# Altium schematic symbol library EVMOMAPL137_Orcad_revg_Library.SchLib: 165 symbols
Pins are listed as number, name and electrical type; pins without a type are passive.

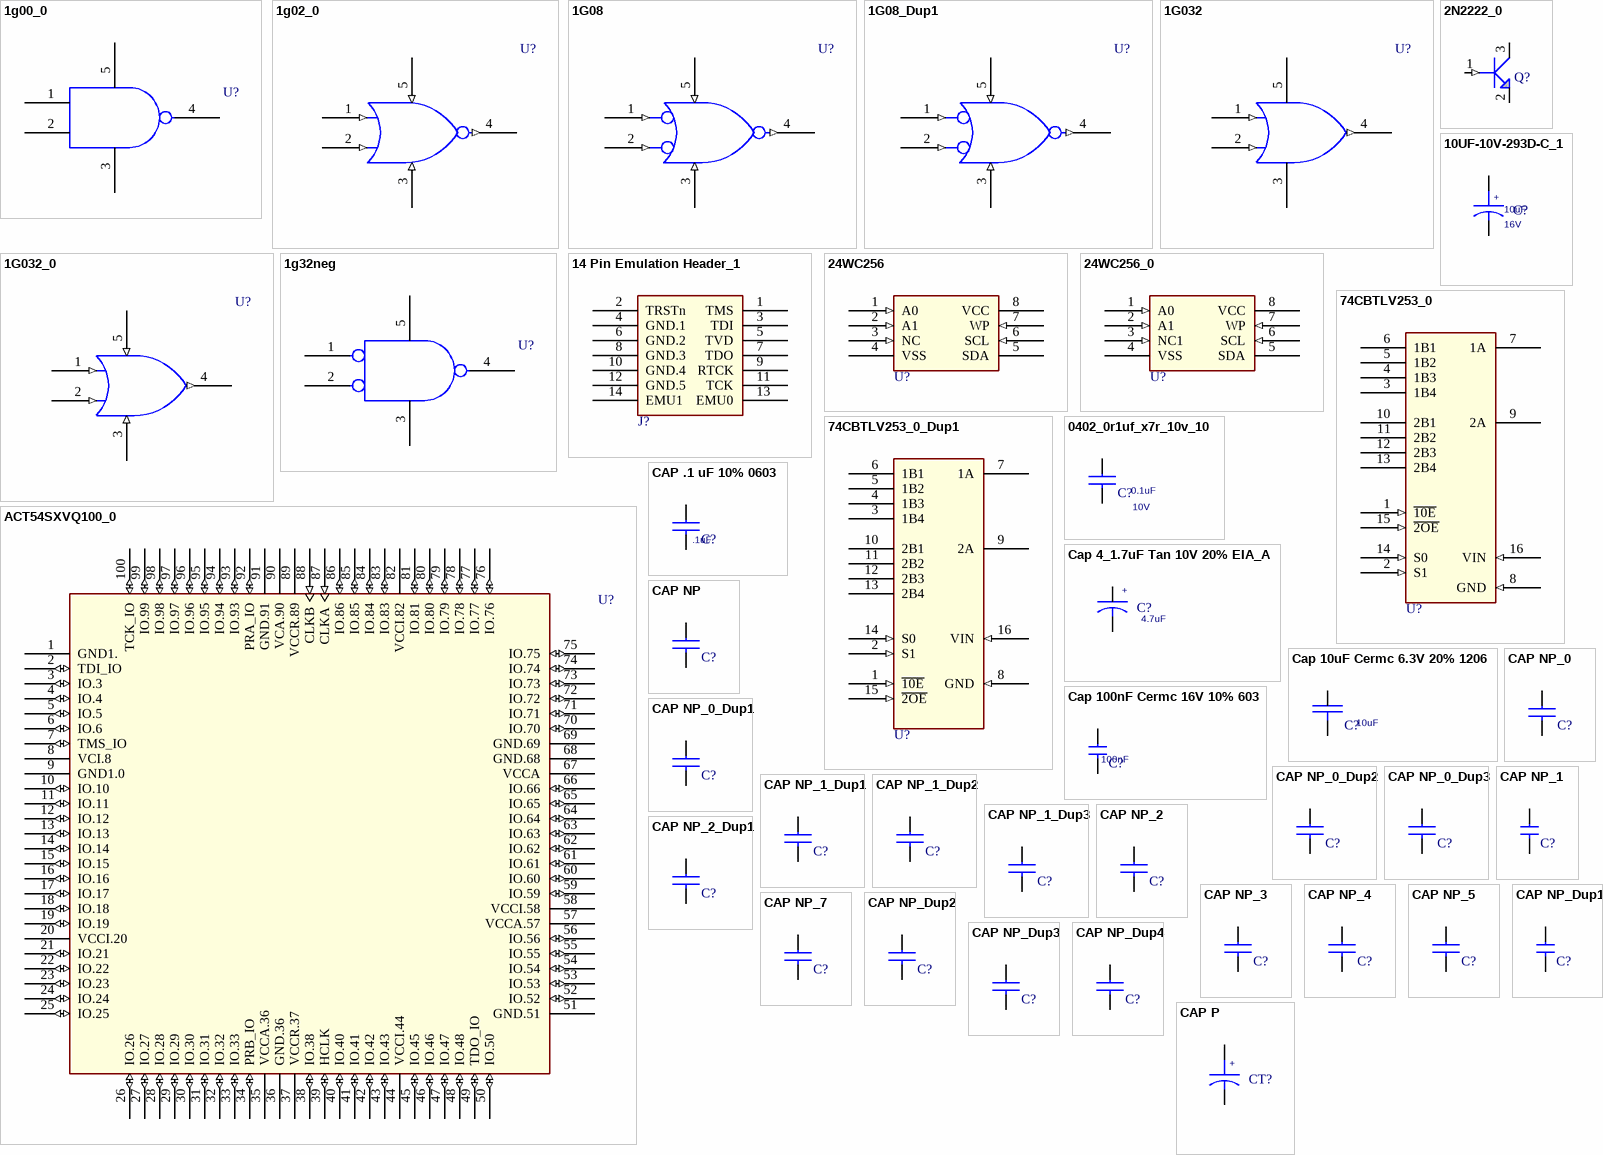
[diagram p0: symbols 1g00_0 to CAP P]

## 1g00_0
designator U?
pins: 1 A, 2 B, 3 GND, 4 Y, 5 VCC

## 1g02_0
designator U?
pins: 1 B (in), 2 A (in), 3 GND (in), 4 Y (out), 5 VCC (in)

## 1G08
designator U?
footprint SO5
pins: 1 B (in), 2 A (in), 3 GND (in), 4 Y (out), 5 VCC (in)

## 1G08_Dup1
designator U?
footprint SO5
pins: 1 B (in), 2 A (in), 3 GND (in), 4 Y (out), 5 VCC (in)

## 1G032
designator U?
footprint SO5
pins: 1 B (in), 2 A (in), 3 GND (power), 4 Y (out), 5 VCC (power)

## 1G032_0
designator U?
footprint SO5
pins: 1 B (in), 2 A (in), 3 GND (in), 4 Y (out), 5 VCC (in)

## 1g32neg
designator U?
pins: 1 A, 2 B, 3 GND, 4 Y, 5 VCC

## 2N2222_0
designator Q?
pins: 1 BASE (in), 2 EMITTER, 3 COLLECTOR

## 10UF-10V-293D-C_1
designator C?, comment 10uF  RAT: 16V
DEVICE: CAP3528; CLASS: DISCRETE; DIS-V: RS; REF DIS-V: 100-2221; MAN: VISHAY-SPRAGUE; DES: Polarized capacitor; PN: 293D106X9016C; PUR: SUB; TOL: 10%
footprint SM-PCAP-3216
pins: 1 P, 2 M
text: +

## 14 Pin Emulation Header_1
designator J?
pins: 1 TMS, 2 TRSTn, 3 TDI, 4 GND.1 (power), 5 TVD, 6 GND.2 (power), 7 TDO, 8 GND.3 (power), 9 RTCK, 10 GND.4 (power), 11 TCK, 12 GND.5 (power), 13 EMU0, 14 EMU1

## 24WC256
designator U?
footprint SOIC
pins: 1 A0 (in), 2 A1 (in), 3 NC (in), 4 VSS, 5 SDA, 6 SCL (in), 7 WP (in), 8 VCC

## 24WC256_0
designator U?
footprint SOIC
pins: 1 A0 (in), 2 A1 (in), 3 NC1 (in), 4 VSS (power), 5 SDA, 6 SCL (in), 7 WP (in), 8 VCC

## 74CBTLV253_0
designator U?
pins: 1 ~{10E} (in), 2 S1 (in), 3 1B4, 4 1B3, 5 1B2, 6 1B1, 7 1A, 8 GND (in), 9 2A, 10 2B1, 11 2B2, 12 2B3, 13 2B4, 14 S0 (in), 15 ~{2OE} (in), 16 VIN (in)

## 74CBTLV253_0_Dup1
designator U?
pins: 1 ~{10E} (in), 2 S1 (in), 3 1B4, 4 1B3, 5 1B2, 6 1B1, 7 1A, 8 GND (in), 9 2A, 10 2B1, 11 2B2, 12 2B3, 13 2B4, 14 S0 (in), 15 ~{2OE} (in), 16 VIN (in)

## 0402_0r1uf_x7r_10v_10
designator C?, comment 0.1uF  Voltage: 10V
TN: 207-0068-000; Desc: CAP, CER, X7R, 0402, 10V, 10%, 0.1uF
footprint SM-CAP-0402
pins: 1, 2

## ACT54SXVQ100_0
designator U?
footprint TQFP100
pins: 1 GND1. (power), 2 TDI_IO (io), 3 IO.3 (io), 4 IO.4 (io), 5 IO.5 (io), 6 IO.6 (io), 7 TMS_IO (io), 8 VCI.8 (power), 9 GND1.0 (power), 10 IO.10 (io), 11 IO.11 (io), 12 IO.12 (io), 13 IO.13 (io), 14 IO.14 (io), 15 IO.15 (io), 16 IO.16 (io), 17 IO.17 (io), 18 IO.18 (io), 19 IO.19 (io), 20 VCCI.20 (power), 21 IO.21 (io), 22 IO.22 (io), 23 IO.23 (io), 24 IO.24 (io), 25 IO.25 (io), 26 IO.26 (io), 27 IO.27 (io), 28 IO.28 (io), 29 IO.29 (io), 30 IO.30 (io), 31 IO.31 (io), 32 IO.32 (io), 33 IO.33 (io), 34 PRB_IO (io), 35 VCCA.36 (power), 36 GND.36 (power), 37 VCCR.37, 38 IO.38 (io), 39 HCLK (io), 40 IO.40 (io), 41 IO.41 (io), 42 IO.42 (io), 43 IO.43 (io), 44 VCCI.44 (power), 45 IO.45 (io), 46 IO.46 (io), 47 IO.47 (io), 48 IO.48 (io), 49 TDO_IO (io), 50 IO.50 (io), 51 GND.51 (power), 52 IO.52 (io), 53 IO.53 (io), 54 IO.54 (io), 55 IO.55 (io), 56 IO.56 (io), 57 VCCA.57 (power), 58 VCCI.58 (power), 59 IO.59 (io), 60 IO.60 (io), 61 IO.61 (io), 62 IO.62 (io), 63 IO.63 (io), 64 IO.64 (io), 65 IO.65 (io), 66 IO.66 (io), 67 VCCA (power), 68 GND.68 (power), 69 GND.69 (power), 70 IO.70 (io), 71 IO.71 (io), 72 IO.72 (io), 73 IO.73 (io), 74 IO.74 (io), 75 IO.75 (io), 76 IO.76 (io), 77 IO.77 (io), 78 IO.78 (io), 79 IO.79 (io), 80 IO.80 (io), 81 IO.81 (io), 82 VCCI.82 (power), 83 IO.83 (io), 84 IO.84 (io), 85 IO.85 (io), 86 IO.86 (io), 87 CLKA (in), 88 CLKB (in), 89 VCCR.89, 90 VCA.90 (power), 91 GND.91 (power), 92 PRA_IO (io), 93 IO.93 (io), 94 IO.94 (io), 95 IO.95 (io), 96 IO.96 (io), 97 IO.97 (io), 98 IO.98 (io), 99 IO.99 (io), 100 TCK_IO (io)

## Cap 4_1.7uF Tan 10V 20% EIA_A
designator C?, comment 4.7uF
4.7uF Capacitor, Tantalum, 10V, 20%, EIA_A; Mfr: Panasonic; PartName: Cap 4.7uF Tan 10V 20% EIA_A; MfrNum: ECS-T1AY475R; Cost10K: 0.257; Cost100: 0.418; Vendor: Digi-Key; VendorNum: PCS2475CT-ND; NCPartnumber: EIA_A
footprint EIA-A
pins: 1, 2
text: +

## Cap 10uF Cermc 6.3V 20% 1206
designator C?, comment 10uF
10uF Capacitor, Ceramic, 6.3V, 20%, 1206; Part #: 101497-0101; PartName: Cap 10uF Cermc 6.3V 20% 1206; MfrNum: JMK316BJ106ML; Mfr: TAIYO YUDEN; Cost100: 0.452; Cost10K: 0.298; SD PCB Footprint: EIA1206
footprint C1206-40X70
pins: 1, 2

## Cap 100nF Cermc 16V 10% 603
designator C?, comment 100nF
0.1uF Capacitor, Ceramic, 16V, 10%, 0603; PartName: Cap 100nF Cermc 16V 10% 603; MfrNum: ECJ-1VB1C104K; Mfr: Panasonic; NCPartnumber: 1C0056; VendorNum: PCC1762CT-ND; Vendor: Digi-Key; Cost100: 0.0694; Cost10K: 0.038
footprint 0603
pins: 1, 2

## CAP .1 uF 10% 0603
designator C?, comment .1uF
footprint C0603
pins: 1, 2

## CAP NP
designator C?
pins: 1, 2

## CAP NP_0
designator C?
pins: 1, 2

## CAP NP_0_Dup1
designator C?
pins: 1, 2

## CAP NP_0_Dup2
designator C?
pins: 1, 2

## CAP NP_0_Dup3
designator C?
pins: 1, 2

## CAP NP_1
designator C?
pins: 1, 2

## CAP NP_1_Dup1
designator C?
pins: 1, 2

## CAP NP_1_Dup2
designator C?
pins: 1, 2

## CAP NP_1_Dup3
designator C?
pins: 1, 2

## CAP NP_2
designator C?
pins: 1, 2

## CAP NP_2_Dup1
designator C?
pins: 1, 2

## CAP NP_3
designator C?
pins: 1, 2

## CAP NP_4
designator C?
pins: 1, 2

## CAP NP_5
designator C?
pins: 1, 2

## CAP NP_7
designator C?
pins: 1, 2

## CAP NP_Dup1
designator C?
pins: 1, 2

## CAP NP_Dup2
designator C?
pins: 1, 2

## CAP NP_Dup3
designator C?
pins: 1, 2

## CAP NP_Dup4
designator C?
pins: 1, 2

## CAP P
designator CT?
pins: 1 ANODE, 2 CATHODE
text: +

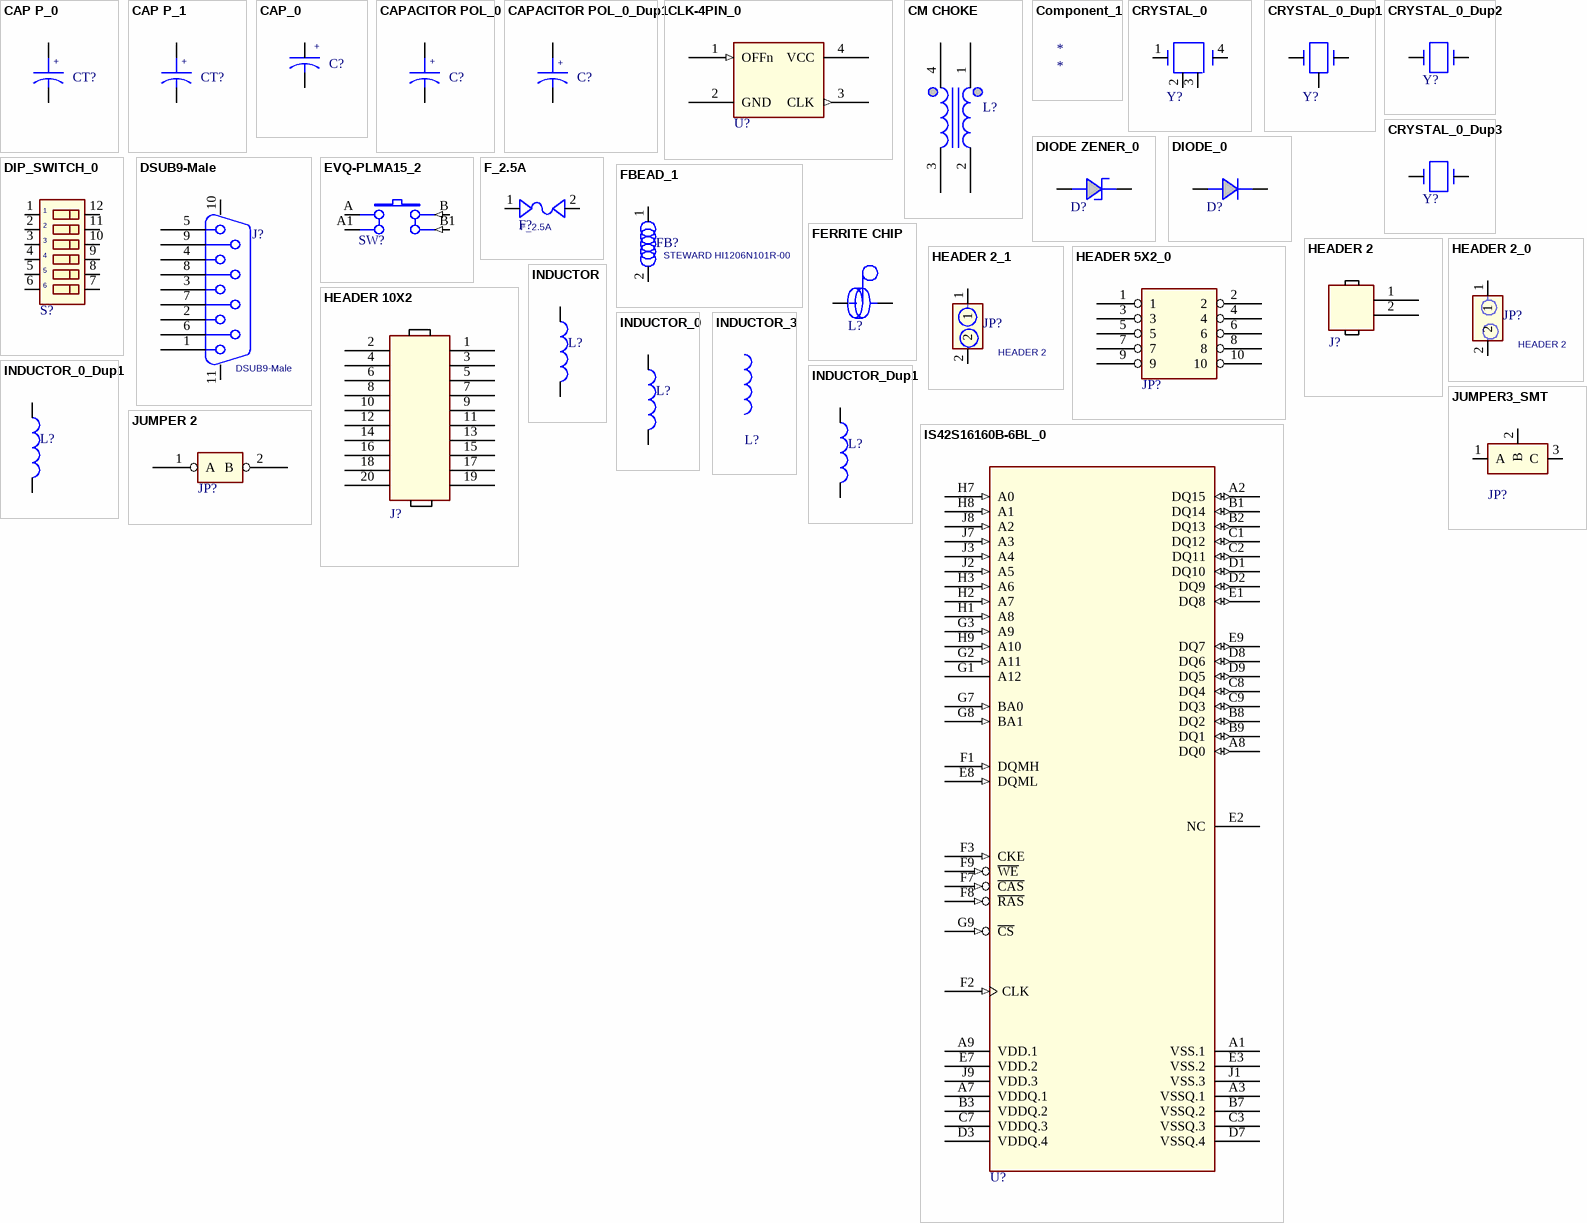
[diagram p1: symbols CAP P_0 to JUMPER 2]

## CAP P_0
designator CT?
pins: 1, 2
text: +

## CAP P_1
designator CT?
pins: 1, 2
text: +

## CAP_0
designator C?
footprint EIA_D
pins: 1, 2
text: +

## CAPACITOR POL_0
designator C?
pins: 1, 2
text: +

## CAPACITOR POL_0_Dup1
designator C?
pins: 1, 2
text: +

## CLK-4PIN_0
designator U?
pins: 1 OFFn (in), 2 GND (power), 3 CLK (out), 4 VCC (power)

## CM CHOKE
designator L?
footprint SMT
pins: 1, 2, 3, 4

## Component_1
designator *

## CRYSTAL_0
designator Y?
pins: 1, 2, 3, 4

## CRYSTAL_0_Dup1
designator Y?
pins: 1, 2, 3

## CRYSTAL_0_Dup2
designator Y?
pins: 1, 2

## CRYSTAL_0_Dup3
designator Y?
pins: 1, 2

## DIODE ZENER_0
designator D?
pins: 1 CATHODE, 2 ANODE

## DIODE_0
designator D?
pins: 1 CATHODE, 2 ANODE

## DIP_SWITCH_0
designator S?
footprint DIP_SWITCH_10
pins: 1, 2, 3, 4, 5, 6, 7, 8, 9, 10, 11, 12

## DSUB9-Male
designator J?
ATLStockNo1: 4500.xxxx
footprint DSUB-9-M
pins: 1, 2, 3, 4, 5, 6, 7, 8, 9, 10, 11

## EVQ-PLMA15_2
designator SW?
footprint ???
pins: A, A1, B (in), B1 (in)

## F_2.5A
designator F?
footprint SM/F_154
pins: 1 P1, 2 P2

## FBEAD_1
designator FB?, comment STEWARD HI1206N101R-00
pins: 1, 2

## FERRITE CHIP
designator L?
Part #: HZ0805E601R-00; Mfg: Steward
footprint 1206
pins: 1, 2

## HEADER 2
designator J?
pins: 1, 2

## HEADER 2_0
designator JP?, comment HEADER 2
Single Line Header 2pin Tin; Mfr: Sullins; MfrNum: PTC02SAAN; NCPartnumber: 2H0000; Vendor: Digikey; Cost100: 0.252; PartName: HEADER2Pin; Cost10K: 0.252
pins: 1, 2

## HEADER 2_1
designator JP?, comment HEADER 2
Single Line Header 2pin Tin; Mfr: Sullins; MfrNum: PTC02SAAN; NCPartnumber: 2H0000; Vendor: Digikey; Cost100: 0.252; PartName: HEADER2Pin; Cost10K: 0.252
pins: 1, 2

## HEADER 5X2_0
designator JP?
pins: 1, 2, 3, 4, 5, 6, 7, 8, 9, 10

## HEADER 10X2
designator J?
pins: 1, 2, 3, 4, 5, 6, 7, 8, 9, 10, 11, 12, 13, 14, 15, 16, 17, 18, 19, 20

## INDUCTOR
designator L?
pins: 1, 2

## INDUCTOR_0
designator L?
Part Number: 134
pins: 1, 2

## INDUCTOR_0_Dup1
designator L?
pins: 1, 2

## INDUCTOR_3
designator L?
pins: 1, 2

## INDUCTOR_Dup1
designator L?
pins: 1, 2

## IS42S16160B-6BL_0
designator U?
pins: A1 VSS.1 (power), A2 DQ15 (io), A3 VSSQ.1 (power), A7 VDDQ.1 (power), A8 DQ0 (io), A9 VDD.1 (power), B1 DQ14 (io), B2 DQ13 (io), B3 VDDQ.2 (power), B7 VSSQ.2 (power), B8 DQ2 (io), B9 DQ1 (io), C1 DQ12 (io), C2 DQ11 (io), C3 VSSQ.3 (power), C7 VDDQ.3 (power), C8 DQ4 (io), C9 DQ3 (io), D1 DQ10 (io), D2 DQ9 (io), D3 VDDQ.4 (power), D7 VSSQ.4 (power), D8 DQ6 (io), D9 DQ5 (io), E1 DQ8 (io), E2 NC, E3 VSS.2 (power), E7 VDD.2 (power), E8 DQML (in), E9 DQ7 (io), F1 DQMH (in), F2 CLK (in), F3 CKE (in), F7 ~{CAS} (in), F8 ~{RAS} (in), F9 ~{WE} (in), G1 A12, G2 A11 (in), G3 A9 (in), G7 BA0 (in), G8 BA1 (in), G9 ~{CS} (in), H1 A8 (in), H2 A7 (in), H3 A6 (in), H7 A0 (in), H8 A1 (in), H9 A10 (in), J1 VSS.3 (power), J2 A5 (in), J3 A4 (in), J7 A3 (in), J8 A2 (in), J9 VDD.3 (power)

## JUMPER3_SMT
designator JP?
footprint 603
pins: 1 A, 2 B, 3 C

## JUMPER 2
designator JP?
footprint DIP
pins: 1 A, 2 B

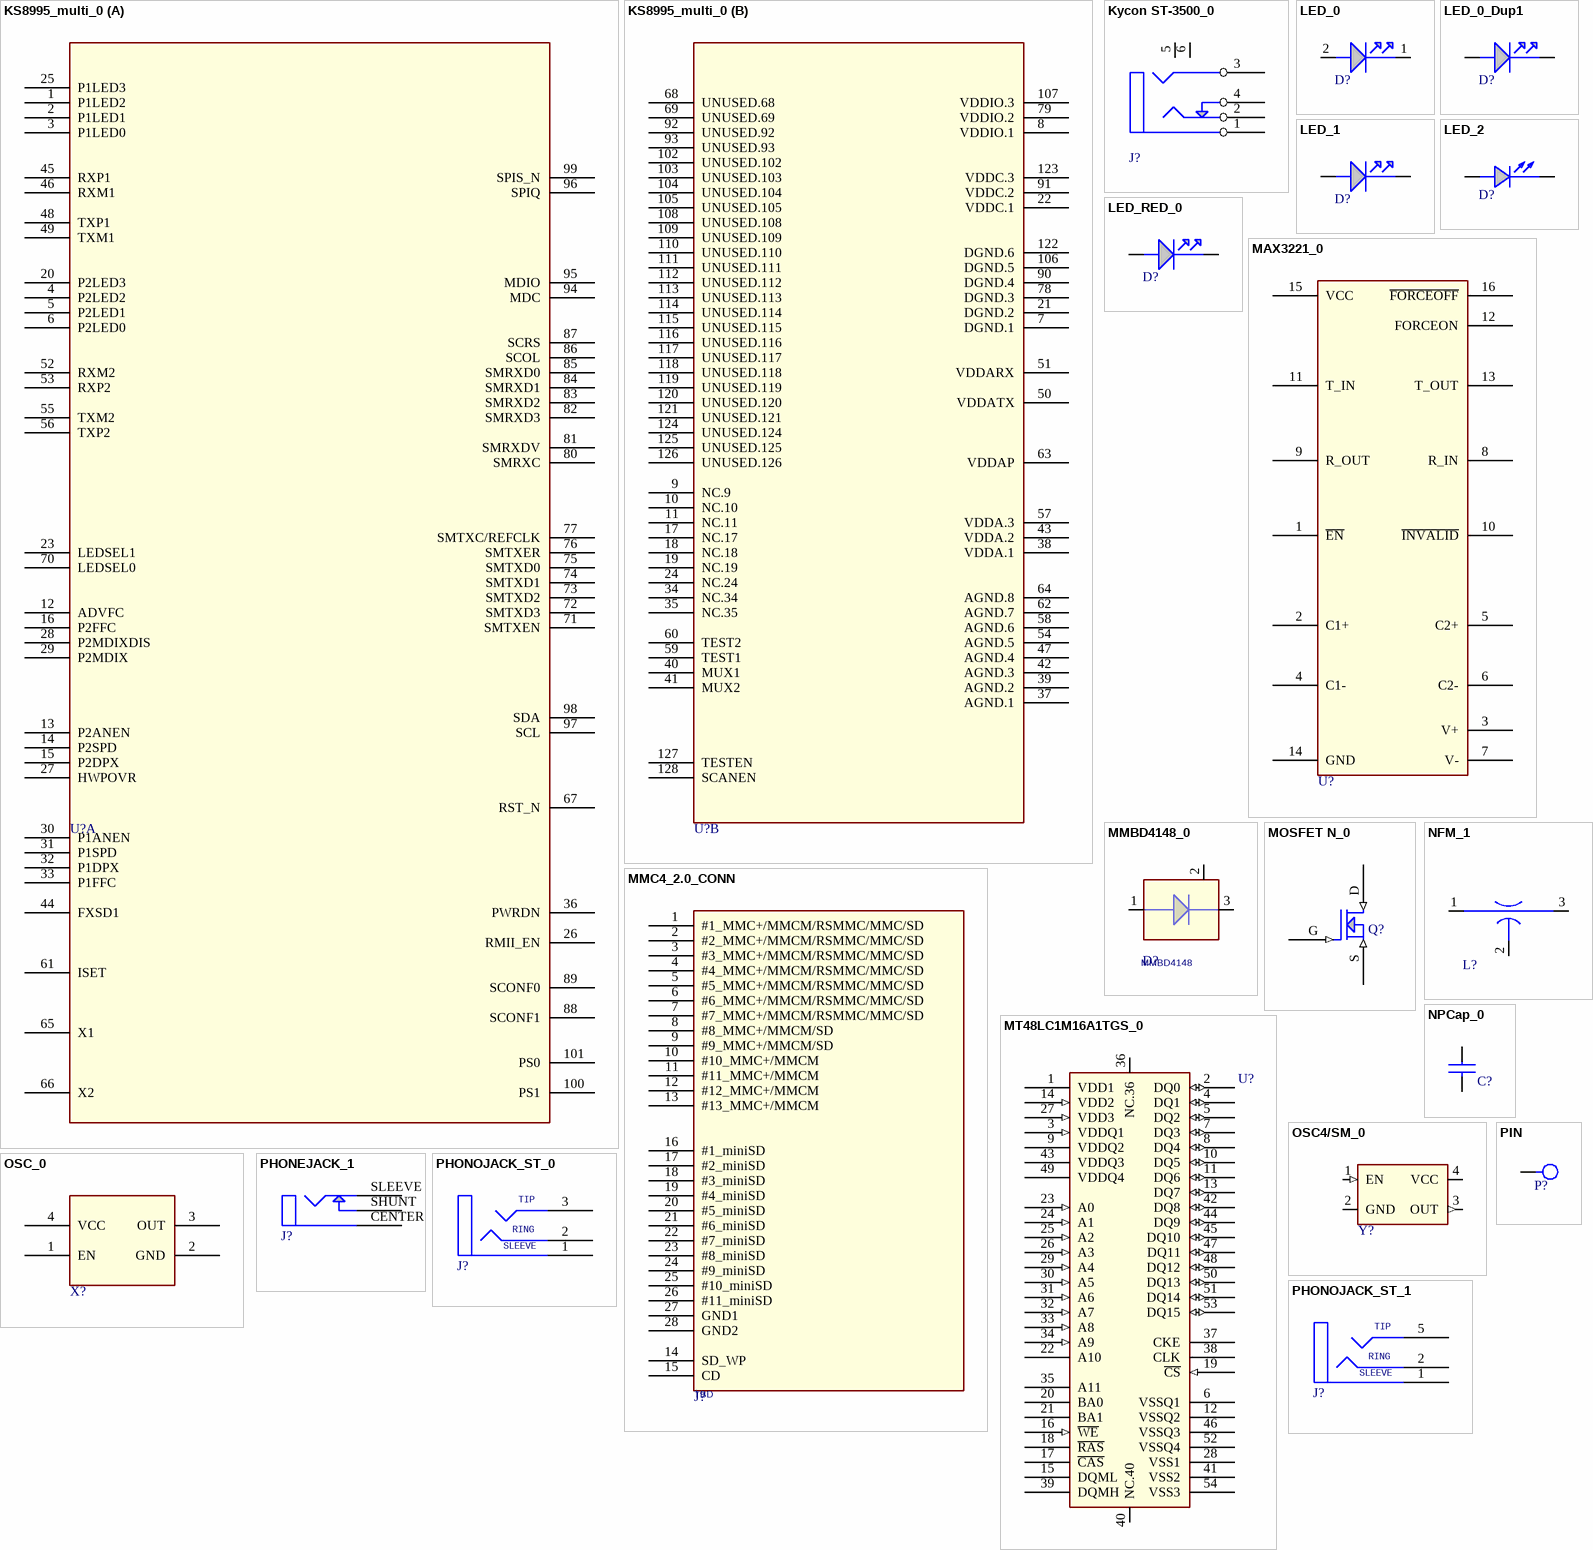
[diagram p2: symbols KS8995_multi_0 to PIN]

## KS8995_multi_0
designator U?
part A pins: 1 P1LED2, 2 P1LED1, 3 P1LED0, 4 P2LED2, 5 P2LED1, 6 P2LED0, 12 ADVFC, 13 P2ANEN, 14 P2SPD, 15 P2DPX, 16 P2FFC, 20 P2LED3, 23 LEDSEL1, 25 P1LED3, 26 RMII_EN, 27 HWPOVR, 28 P2MDIXDIS, 29 P2MDIX, 30 P1ANEN, 31 P1SPD, 32 P1DPX, 33 P1FFC, 36 PWRDN, 44 FXSD1, 45 RXP1, 46 RXM1, 48 TXP1, 49 TXM1, 52 RXM2, 53 RXP2, 55 TXM2, 56 TXP2, 61 ISET, 65 X1, 66 X2, 67 RST_N, 70 LEDSEL0, 71 SMTXEN, 72 SMTXD3, 73 SMTXD2, 74 SMTXD1, 75 SMTXD0, 76 SMTXER, 77 SMTXC/REFCLK, 80 SMRXC, 81 SMRXDV, 82 SMRXD3, 83 SMRXD2, 84 SMRXD1, 85 SMRXD0, 86 SCOL, 87 SCRS, 88 SCONF1, 89 SCONF0, 94 MDC, 95 MDIO, 96 SPIQ, 97 SCL, 98 SDA, 99 SPIS_N, 100 PS1, 101 PS0
part B pins: 7 DGND.1, 8 VDDIO.1, 9 NC.9, 10 NC.10, 11 NC.11, 17 NC.17, 18 NC.18, 19 NC.19, 21 DGND.2, 22 VDDC.1, 24 NC.24, 34 NC.34, 35 NC.35, 37 AGND.1, 38 VDDA.1, 39 AGND.2, 40 MUX1, 41 MUX2, 42 AGND.3, 43 VDDA.2, 47 AGND.4, 50 VDDATX, 51 VDDARX, 54 AGND.5, 57 VDDA.3, 58 AGND.6, 59 TEST1, 60 TEST2, 62 AGND.7, 63 VDDAP, 64 AGND.8, 68 UNUSED.68, 69 UNUSED.69, 78 DGND.3, 79 VDDIO.2, 90 DGND.4, 91 VDDC.2, 92 UNUSED.92, 93 UNUSED.93, 102 UNUSED.102, 103 UNUSED.103, 104 UNUSED.104, 105 UNUSED.105, 106 DGND.5, 107 VDDIO.3, 108 UNUSED.108, 109 UNUSED.109, 110 UNUSED.110, 111 UNUSED.111, 112 UNUSED.112, 113 UNUSED.113, 114 UNUSED.114, 115 UNUSED.115, 116 UNUSED.116, 117 UNUSED.117, 118 UNUSED.118, 119 UNUSED.119, 120 UNUSED.120, 121 UNUSED.121, 122 DGND.6, 123 VDDC.3, 124 UNUSED.124, 125 UNUSED.125, 126 UNUSED.126, 127 TESTEN, 128 SCANEN

## Kycon ST-3500_0
designator J?
pins: 1 SHIELD, 2 TIP, 3 RING, 4 TIPB, 5 MH1, 6 MH2

## LED_0
designator D?
pins: 1 CATHODE, 2 ANODE

## LED_0_Dup1
designator D?
pins: 1 cathode, 2 ANODE

## LED_1
designator D?
footprint CHIP 1206
pins: 1 CATHODE, 2 ANODE

## LED_2
designator D?
pins: 1 CATHODE, 2 ANODE

## LED_RED_0
designator D?
pins: 1 cathode, 2 ANODE

## MAX3221_0
designator U?
pins: 1 ~{EN}, 2 C1+, 3 V+, 4 C1-, 5 C2+, 6 C2-, 7 V-, 8 R_IN, 9 R_OUT, 10 ~{INVALID}, 11 T_IN, 12 FORCEON, 13 T_OUT, 14 GND (power), 15 VCC (power), 16 ~{FORCEOFF}

## MMBD4148_0
designator D?, comment MMBD4148
footprint SOT23-3
pins: 1 ANODE, 2, 3 CATHODE

## MMC4_2.0_CONN
designator J?, comment TBD
Manufacturer: OMRON; ATLStockNo1: 4500.0144; TN: 224-0332-000
footprint SM-CON-MOLEX-54794-0918
pins: 1 #1_MMC+/MMCM/RSMMC/MMC/SD, 2 #2_MMC+/MMCM/RSMMC/MMC/SD, 3 #3_MMC+/MMCM/RSMMC/MMC/SD, 4 #4_MMC+/MMCM/RSMMC/MMC/SD, 5 #5_MMC+/MMCM/RSMMC/MMC/SD, 6 #6_MMC+/MMCM/RSMMC/MMC/SD, 7 #7_MMC+/MMCM/RSMMC/MMC/SD, 8 #8_MMC+/MMCM/SD, 9 #9_MMC+/MMCM/SD, 10 #10_MMC+/MMCM, 11 #11_MMC+/MMCM, 12 #12_MMC+/MMCM, 13 #13_MMC+/MMCM, 14 SD_WP, 15 CD, 16 #1_miniSD, 17 #2_miniSD, 18 #3_miniSD, 19 #4_miniSD, 20 #5_miniSD, 21 #6_miniSD, 22 #7_miniSD, 23 #8_miniSD, 24 #9_miniSD, 25 #10_miniSD, 26 #11_miniSD, 27 GND1, 28 GND2

## MOSFET N_0
designator Q?
pins: D DRAIN (in), G GATE (in), S SOURCE (in)

## MT48LC1M16A1TGS_0
designator U?
footprint 50 pin TSOP
pins: 1 VDD1, 2 DQ0 (io), 3 VDDQ1 (in), 4 DQ1 (io), 5 DQ2 (io), 6 VSSQ1, 7 DQ3 (io), 8 DQ4 (io), 9 VDDQ2, 10 DQ5 (io), 11 DQ6 (io), 12 VSSQ2, 13 DQ7 (io), 14 VDD2 (in), 15 DQML, 16 ~{WE} (in), 17 ~{CAS}, 18 ~{RAS}, 19 ~{CS} (in), 20 BA0, 21 BA1, 22 A10, 23 A0 (in), 24 A1 (in), 25 A2 (in), 26 A3 (in), 27 VDD3 (in), 28 VSS1, 29 A4 (in), 30 A5 (in), 31 A6 (in), 32 A7 (in), 33 A8 (in), 34 A9 (in), 35 A11, 36 NC.36, 37 CKE, 38 CLK, 39 DQMH, 40 NC.40, 41 VSS2, 42 DQ8 (io), 43 VDDQ3, 44 DQ9 (io), 45 DQ10 (io), 46 VSSQ3, 47 DQ11 (io), 48 DQ12 (io), 49 VDDQ4, 50 DQ13 (io), 51 DQ14 (io), 52 VSSQ4, 53 DQ15 (io), 54 VSS3

## NFM_1
designator L?
pins: 1, 2, 3

## NPCap_0
designator C?
footprint 1206
pins: 1, 2

## OSC4/SM_0
designator Y?
pins: 1 EN (in), 2 GND (power), 3 OUT (out), 4 VCC (power)

## OSC_0
designator X?
pins: 1 EN, 2 GND, 3 OUT, 4 VCC

## PHONEJACK_1
designator J?
pins: CENTER, SHUNT, SLEEVE

## PHONOJACK_ST_0
designator J?
pins: 1, 2, 3
text: TIP; RING; SLEEVE

## PHONOJACK_ST_1
designator J?
pins: 1, 2, 5
text: TIP; RING; SLEEVE

## PIN
designator P?
footprint PIN62
pins: 1 PIN

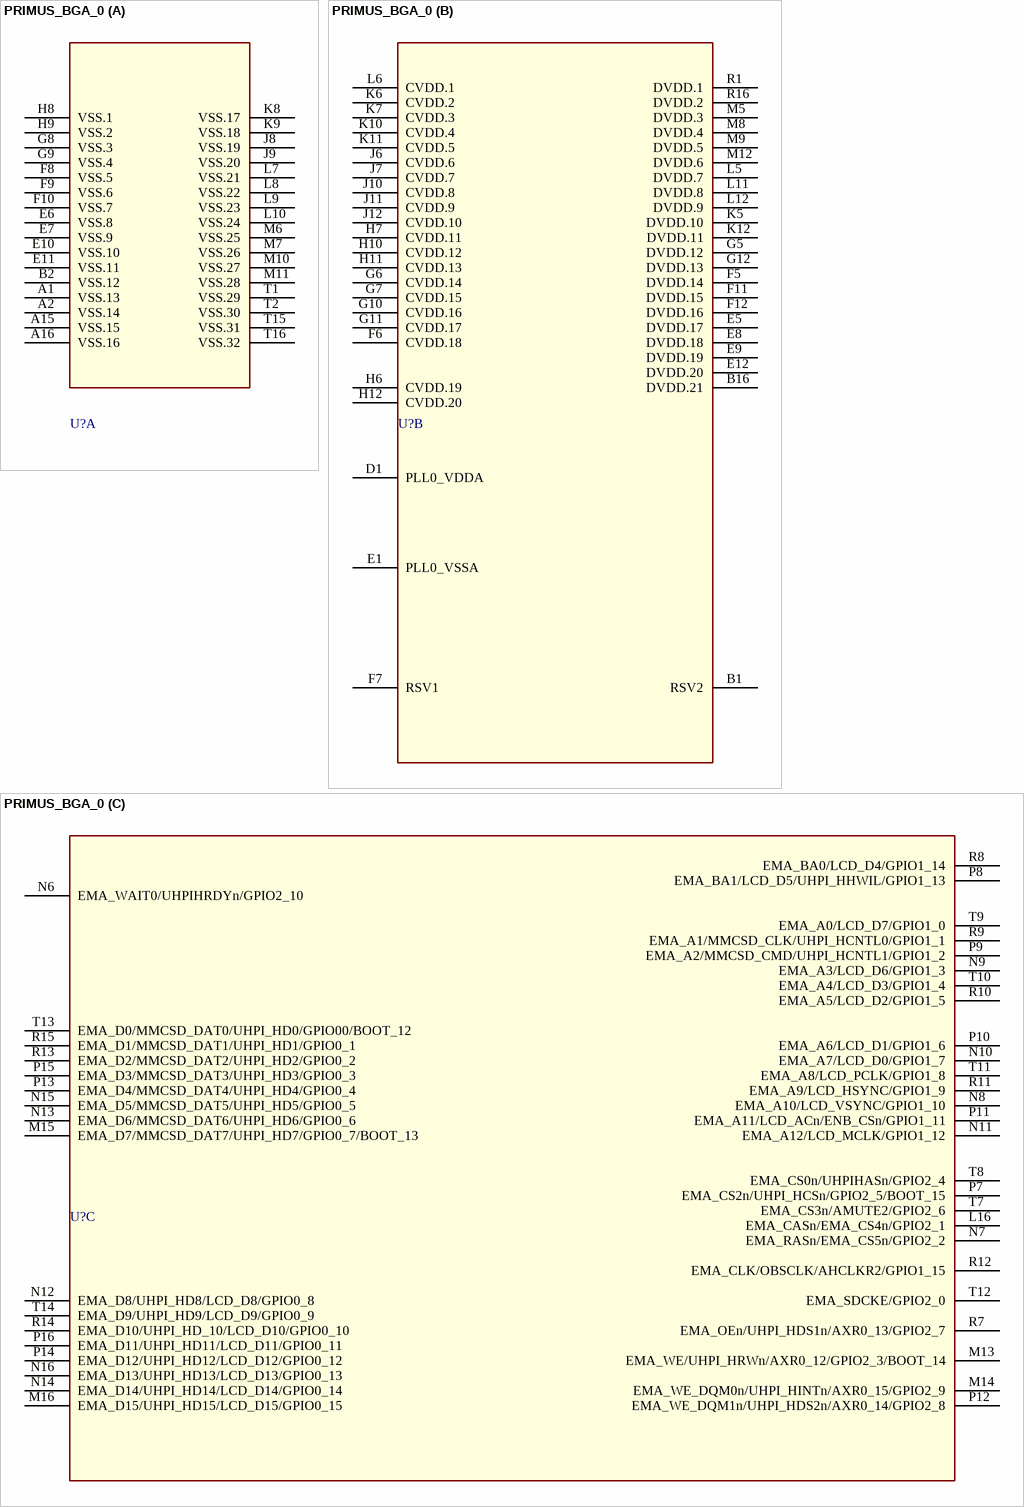
[diagram p3: symbol PRIMUS_BGA_0]

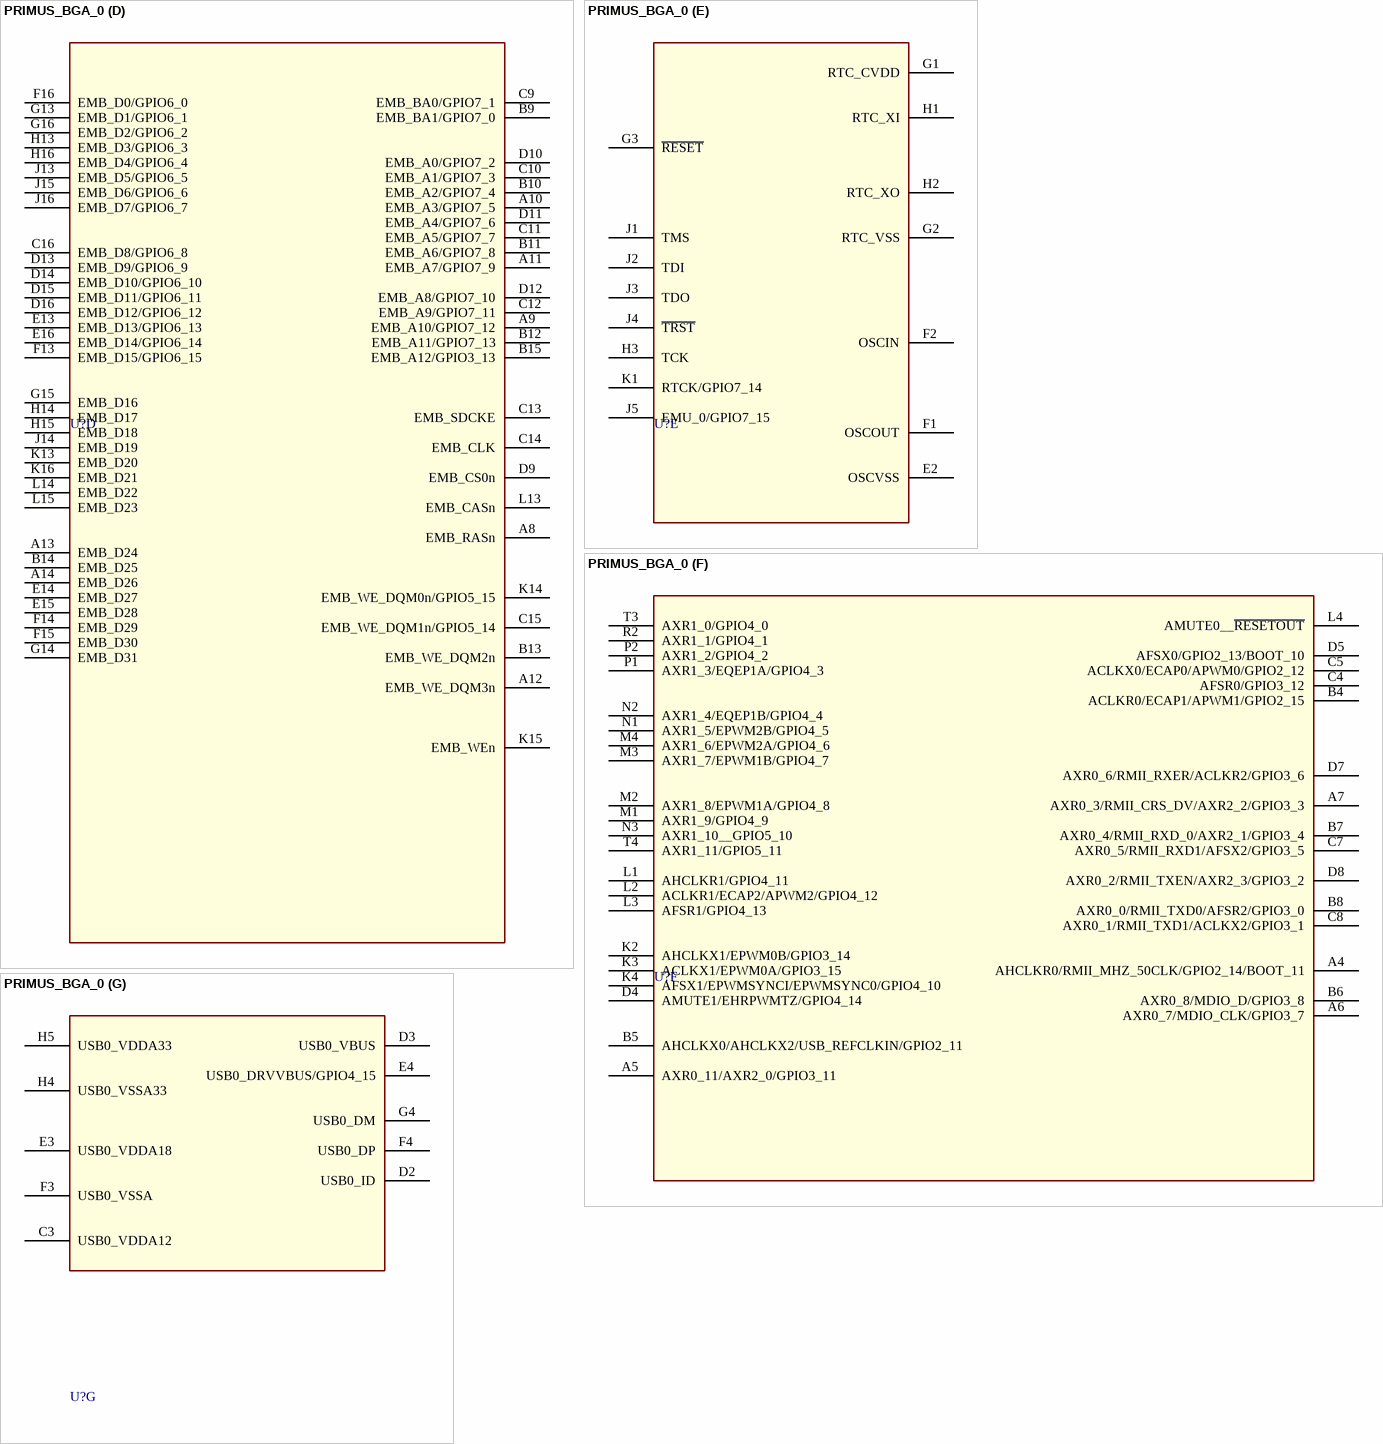
[diagram p4: symbol PRIMUS_BGA_0]

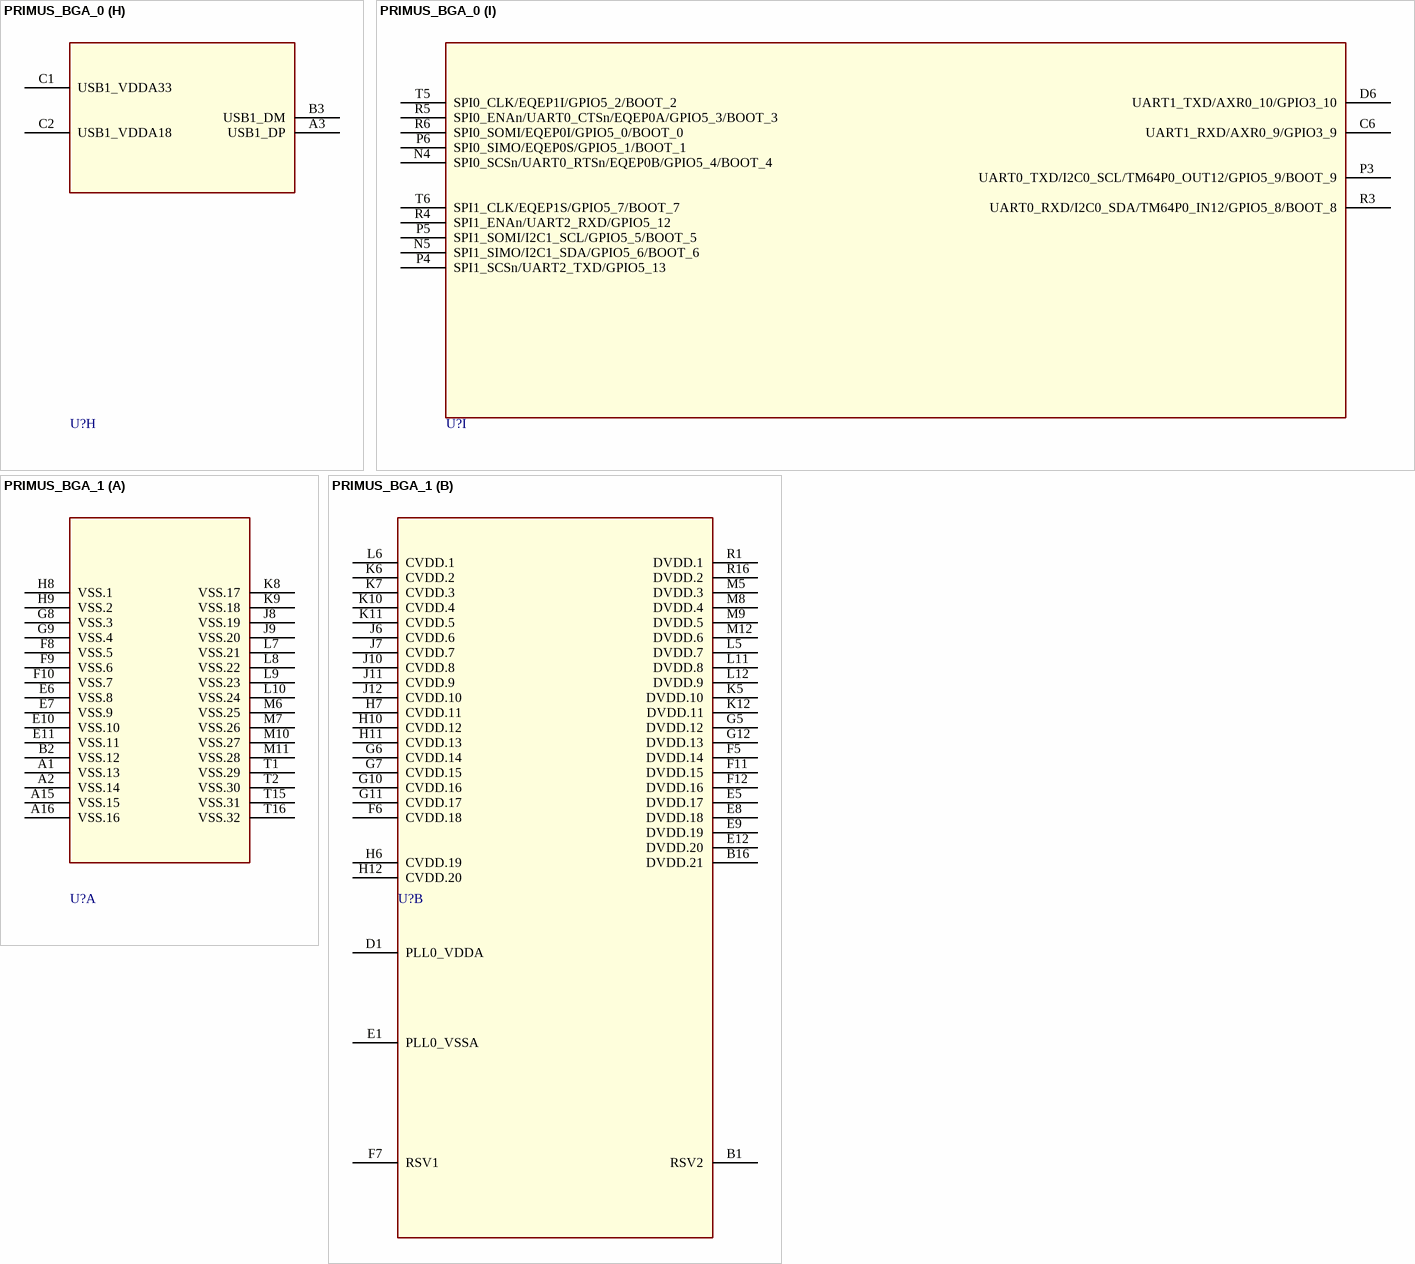
[diagram p5: symbols PRIMUS_BGA_0 to PRIMUS_BGA_1]

## PRIMUS_BGA_0
designator U?
SWAP_INFO: (S1+S2+S3+S4+S5+S6+S7+S8+S9); SPLIT_INST: TRUE
part A pins: A1 VSS.13 (power), A2 VSS.14 (power), A15 VSS.15 (power), A16 VSS.16 (power), B2 VSS.12 (power), E6 VSS.8 (power), E7 VSS.9 (power), E10 VSS.10 (power), E11 VSS.11 (power), F8 VSS.5 (power), F9 VSS.6 (power), F10 VSS.7 (power), G8 VSS.3 (power), G9 VSS.4 (power), H8 VSS.1 (power), H9 VSS.2 (power), J8 VSS.19 (power), J9 VSS.20 (power), K8 VSS.17 (power), K9 VSS.18 (power), L7 VSS.21 (power), L8 VSS.22 (power), L9 VSS.23 (power), L10 VSS.24 (power), M6 VSS.25 (power), M7 VSS.26 (power), M10 VSS.27 (power), M11 VSS.28 (power), T1 VSS.29 (power), T2 VSS.30 (power), T15 VSS.31 (power), T16 VSS.32 (power)
part B pins: B1 RSV2 (power), B16 DVDD.21 (power), D1 PLL0_VDDA (power), E1 PLL0_VSSA (power), E5 DVDD.17 (power), E8 DVDD.18 (power), E9 DVDD.19 (power), E12 DVDD.20 (power), F5 DVDD.14 (power), F6 CVDD.18 (power), F7 RSV1, F11 DVDD.15 (power), F12 DVDD.16 (power), G5 DVDD.12 (power), G6 CVDD.14 (power), G7 CVDD.15 (power), G10 CVDD.16 (power), G11 CVDD.17 (power), G12 DVDD.13 (power), H6 CVDD.19 (power), H7 CVDD.11 (power), H10 CVDD.12 (power), H11 CVDD.13 (power), H12 CVDD.20 (power), J6 CVDD.6 (power), J7 CVDD.7 (power), J10 CVDD.8 (power), J11 CVDD.9 (power), J12 CVDD.10 (power), K5 DVDD.10 (power), K6 CVDD.2 (power), K7 CVDD.3 (power), K10 CVDD.4 (power), K11 CVDD.5 (power), K12 DVDD.11 (power), L5 DVDD.7 (power), L6 CVDD.1 (power), L11 DVDD.8 (power), L12 DVDD.9 (power), M5 DVDD.3 (power), M8 DVDD.4 (power), M9 DVDD.5 (power), M12 DVDD.6 (power), R1 DVDD.1 (power), R16 DVDD.2 (power)
part C pins: L16 EMA_CASn/EMA_CS4n/GPIO2_1, M13 EMA_WE/UHPI_HRWn/AXR0_12/GPIO2_3/BOOT_14, M14 EMA_WE_DQM0n/UHPI_HINTn/AXR0_15/GPIO2_9, M15 EMA_D7/MMCSD_DAT7/UHPI_HD7/GPIO0_7/BOOT_13, M16 EMA_D15/UHPI_HD15/LCD_D15/GPIO0_15, N6 EMA_WAIT0/UHPIHRDYn/GPIO2_10, N7 EMA_RASn/EMA_CS5n/GPIO2_2, N8 EMA_A10/LCD_VSYNC/GPIO1_10, N9 EMA_A3/LCD_D6/GPIO1_3, N10 EMA_A7/LCD_D0/GPIO1_7, N11 EMA_A12/LCD_MCLK/GPIO1_12, N12 EMA_D8/UHPI_HD8/LCD_D8/GPIO0_8, N13 EMA_D6/MMCSD_DAT6/UHPI_HD6/GPIO0_6, N14 EMA_D14/UHPI_HD14/LCD_D14/GPIO0_14, N15 EMA_D5/MMCSD_DAT5/UHPI_HD5/GPIO0_5, N16 EMA_D13/UHPI_HD13/LCD_D13/GPIO0_13, P7 EMA_CS2n/UHPI_HCSn/GPIO2_5/BOOT_15, P8 EMA_BA1/LCD_D5/UHPI_HHWIL/GPIO1_13, P9 EMA_A2/MMCSD_CMD/UHPI_HCNTL1/GPIO1_2, P10 EMA_A6/LCD_D1/GPIO1_6, P11 EMA_A11/LCD_ACn/ENB_CSn/GPIO1_11, P12 EMA_WE_DQM1n/UHPI_HDS2n/AXR0_14/GPIO2_8, P13 EMA_D4/MMCSD_DAT4/UHPI_HD4/GPIO0_4, P14 EMA_D12/UHPI_HD12/LCD_D12/GPIO0_12, P15 EMA_D3/MMCSD_DAT3/UHPI_HD3/GPIO0_3, P16 EMA_D11/UHPI_HD11/LCD_D11/GPIO0_11, R7 EMA_OEn/UHPI_HDS1n/AXR0_13/GPIO2_7, R8 EMA_BA0/LCD_D4/GPIO1_14, R9 EMA_A1/MMCSD_CLK/UHPI_HCNTL0/GPIO1_1, R10 EMA_A5/LCD_D2/GPIO1_5, R11 EMA_A9/LCD_HSYNC/GPIO1_9, R12 EMA_CLK/OBSCLK/AHCLKR2/GPIO1_15, R13 EMA_D2/MMCSD_DAT2/UHPI_HD2/GPIO0_2, R14 EMA_D10/UHPI_HD_10/LCD_D10/GPIO0_10, R15 EMA_D1/MMCSD_DAT1/UHPI_HD1/GPIO0_1, T7 EMA_CS3n/AMUTE2/GPIO2_6, T8 EMA_CS0n/UHPIHASn/GPIO2_4, T9 EMA_A0/LCD_D7/GPIO1_0, T10 EMA_A4/LCD_D3/GPIO1_4, T11 EMA_A8/LCD_PCLK/GPIO1_8, T12 EMA_SDCKE/GPIO2_0, T13 EMA_D0/MMCSD_DAT0/UHPI_HD0/GPIO00/BOOT_12, T14 EMA_D9/UHPI_HD9/LCD_D9/GPIO0_9
part D pins: A8 EMB_RASn, A9 EMB_A10/GPIO7_12, A10 EMB_A3/GPIO7_5, A11 EMB_A7/GPIO7_9, A12 EMB_WE_DQM3n, A13 EMB_D24, A14 EMB_D26, B9 EMB_BA1/GPIO7_0, B10 EMB_A2/GPIO7_4, B11 EMB_A6/GPIO7_8, B12 EMB_A11/GPIO7_13, B13 EMB_WE_DQM2n, B14 EMB_D25, B15 EMB_A12/GPIO3_13, C9 EMB_BA0/GPIO7_1, C10 EMB_A1/GPIO7_3, C11 EMB_A5/GPIO7_7, C12 EMB_A9/GPIO7_11, C13 EMB_SDCKE, C14 EMB_CLK, C15 EMB_WE_DQM1n/GPIO5_14, C16 EMB_D8/GPIO6_8, D9 EMB_CS0n, D10 EMB_A0/GPIO7_2, D11 EMB_A4/GPIO7_6, D12 EMB_A8/GPIO7_10, D13 EMB_D9/GPIO6_9, D14 EMB_D10/GPIO6_10, D15 EMB_D11/GPIO6_11, D16 EMB_D12/GPIO6_12, E13 EMB_D13/GPIO6_13, E14 EMB_D27, E15 EMB_D28, E16 EMB_D14/GPIO6_14, F13 EMB_D15/GPIO6_15, F14 EMB_D29, F15 EMB_D30, F16 EMB_D0/GPIO6_0, G13 EMB_D1/GPIO6_1, G14 EMB_D31, G15 EMB_D16, G16 EMB_D2/GPIO6_2, H13 EMB_D3/GPIO6_3, H14 EMB_D17, H15 EMB_D18, H16 EMB_D4/GPIO6_4, J13 EMB_D5/GPIO6_5, J14 EMB_D19, J15 EMB_D6/GPIO6_6, J16 EMB_D7/GPIO6_7, K13 EMB_D20, K14 EMB_WE_DQM0n/GPIO5_15, K15 EMB_WEn, K16 EMB_D21, L13 EMB_CASn, L14 EMB_D22, L15 EMB_D23
part E pins: E2 OSCVSS (power), F1 OSCOUT, F2 OSCIN, G1 RTC_CVDD (power), G2 RTC_VSS (power), G3 ~{RESET}, H1 RTC_XI, H2 RTC_XO, H3 TCK, J1 TMS, J2 TDI, J3 TDO, J4 ~{TRST}, J5 EMU_0/GPIO7_15, K1 RTCK/GPIO7_14
part F pins: A4 AHCLKR0/RMII_MHZ_50CLK/GPIO2_14/BOOT_11, A5 AXR0_11/AXR2_0/GPIO3_11, A6 AXR0_7/MDIO_CLK/GPIO3_7, A7 AXR0_3/RMII_CRS_DV/AXR2_2/GPIO3_3, B4 ACLKR0/ECAP1/APWM1/GPIO2_15, B5 AHCLKX0/AHCLKX2/USB_REFCLKIN/GPIO2_11, B6 AXR0_8/MDIO_D/GPIO3_8, B7 AXR0_4/RMII_RXD_0/AXR2_1/GPIO3_4, B8 AXR0_0/RMII_TXD0/AFSR2/GPIO3_0, C4 AFSR0/GPIO3_12, C5 ACLKX0/ECAP0/APWM0/GPIO2_12, C7 AXR0_5/RMII_RXD1/AFSX2/GPIO3_5, C8 AXR0_1/RMII_TXD1/ACLKX2/GPIO3_1, D4 AMUTE1/EHRPWMTZ/GPIO4_14, D5 AFSX0/GPIO2_13/BOOT_10, D7 AXR0_6/RMII_RXER/ACLKR2/GPIO3_6, D8 AXR0_2/RMII_TXEN/AXR2_3/GPIO3_2, K2 AHCLKX1/EPWM0B/GPIO3_14, K3 ACLKX1/EPWM0A/GPIO3_15, K4 AFSX1/EPWMSYNCI/EPWMSYNC0/GPIO4_10, L1 AHCLKR1/GPIO4_11, L2 ACLKR1/ECAP2/APWM2/GPIO4_12, L3 AFSR1/GPIO4_13, L4 AMUTE0__~{RESETOUT}, M1 AXR1_9/GPIO4_9, M2 AXR1_8/EPWM1A/GPIO4_8, M3 AXR1_7/EPWM1B/GPIO4_7, M4 AXR1_6/EPWM2A/GPIO4_6, N1 AXR1_5/EPWM2B/GPIO4_5, N2 AXR1_4/EQEP1B/GPIO4_4, N3 AXR1_10__GPIO5_10, P1 AXR1_3/EQEP1A/GPIO4_3, P2 AXR1_2/GPIO4_2, R2 AXR1_1/GPIO4_1, T3 AXR1_0/GPIO4_0, T4 AXR1_11/GPIO5_11
part G pins: C3 USB0_VDDA12, D2 USB0_ID, D3 USB0_VBUS, E3 USB0_VDDA18, E4 USB0_DRVVBUS/GPIO4_15, F3 USB0_VSSA, F4 USB0_DP, G4 USB0_DM, H4 USB0_VSSA33, H5 USB0_VDDA33
part H pins: A3 USB1_DP, B3 USB1_DM, C1 USB1_VDDA33, C2 USB1_VDDA18
part I pins: C6 UART1_RXD/AXR0_9/GPIO3_9, D6 UART1_TXD/AXR0_10/GPIO3_10, N4 SPI0_SCSn/UART0_RTSn/EQEP0B/GPIO5_4/BOOT_4, N5 SPI1_SIMO/I2C1_SDA/GPIO5_6/BOOT_6, P3 UART0_TXD/I2C0_SCL/TM64P0_OUT12/GPIO5_9/BOOT_9, P4 SPI1_SCSn/UART2_TXD/GPIO5_13, P5 SPI1_SOMI/I2C1_SCL/GPIO5_5/BOOT_5, P6 SPI0_SIMO/EQEP0S/GPIO5_1/BOOT_1, R3 UART0_RXD/I2C0_SDA/TM64P0_IN12/GPIO5_8/BOOT_8, R4 SPI1_ENAn/UART2_RXD/GPIO5_12, R5 SPI0_ENAn/UART0_CTSn/EQEP0A/GPIO5_3/BOOT_3, R6 SPI0_SOMI/EQEP0I/GPIO5_0/BOOT_0, T5 SPI0_CLK/EQEP1I/GPIO5_2/BOOT_2, T6 SPI1_CLK/EQEP1S/GPIO5_7/BOOT_7

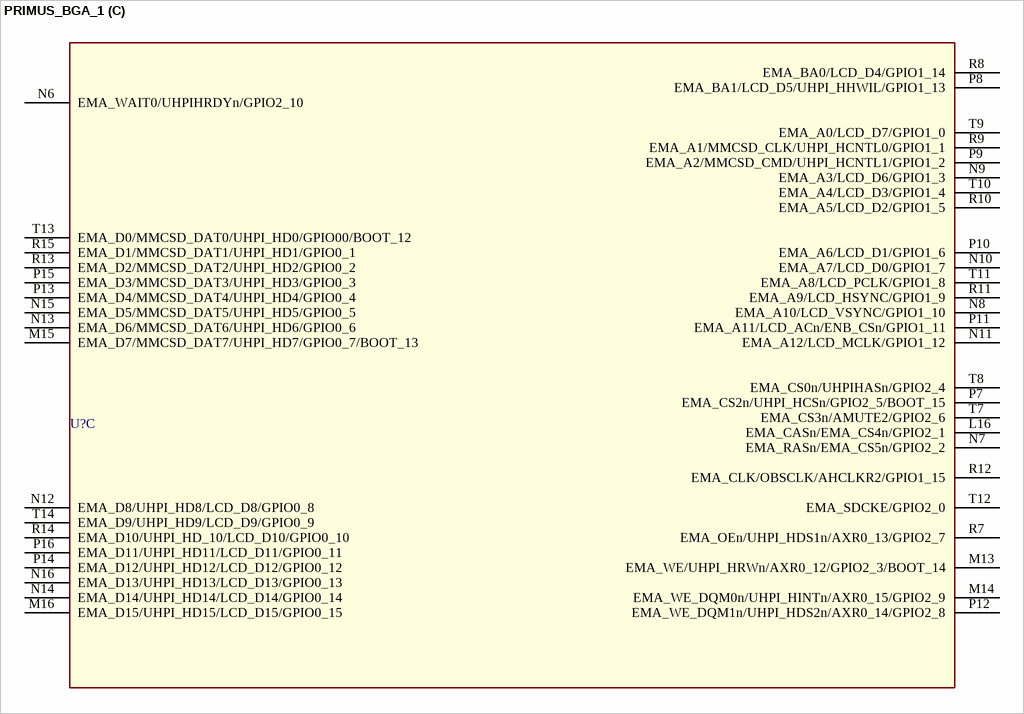
[diagram p6: symbol PRIMUS_BGA_1]

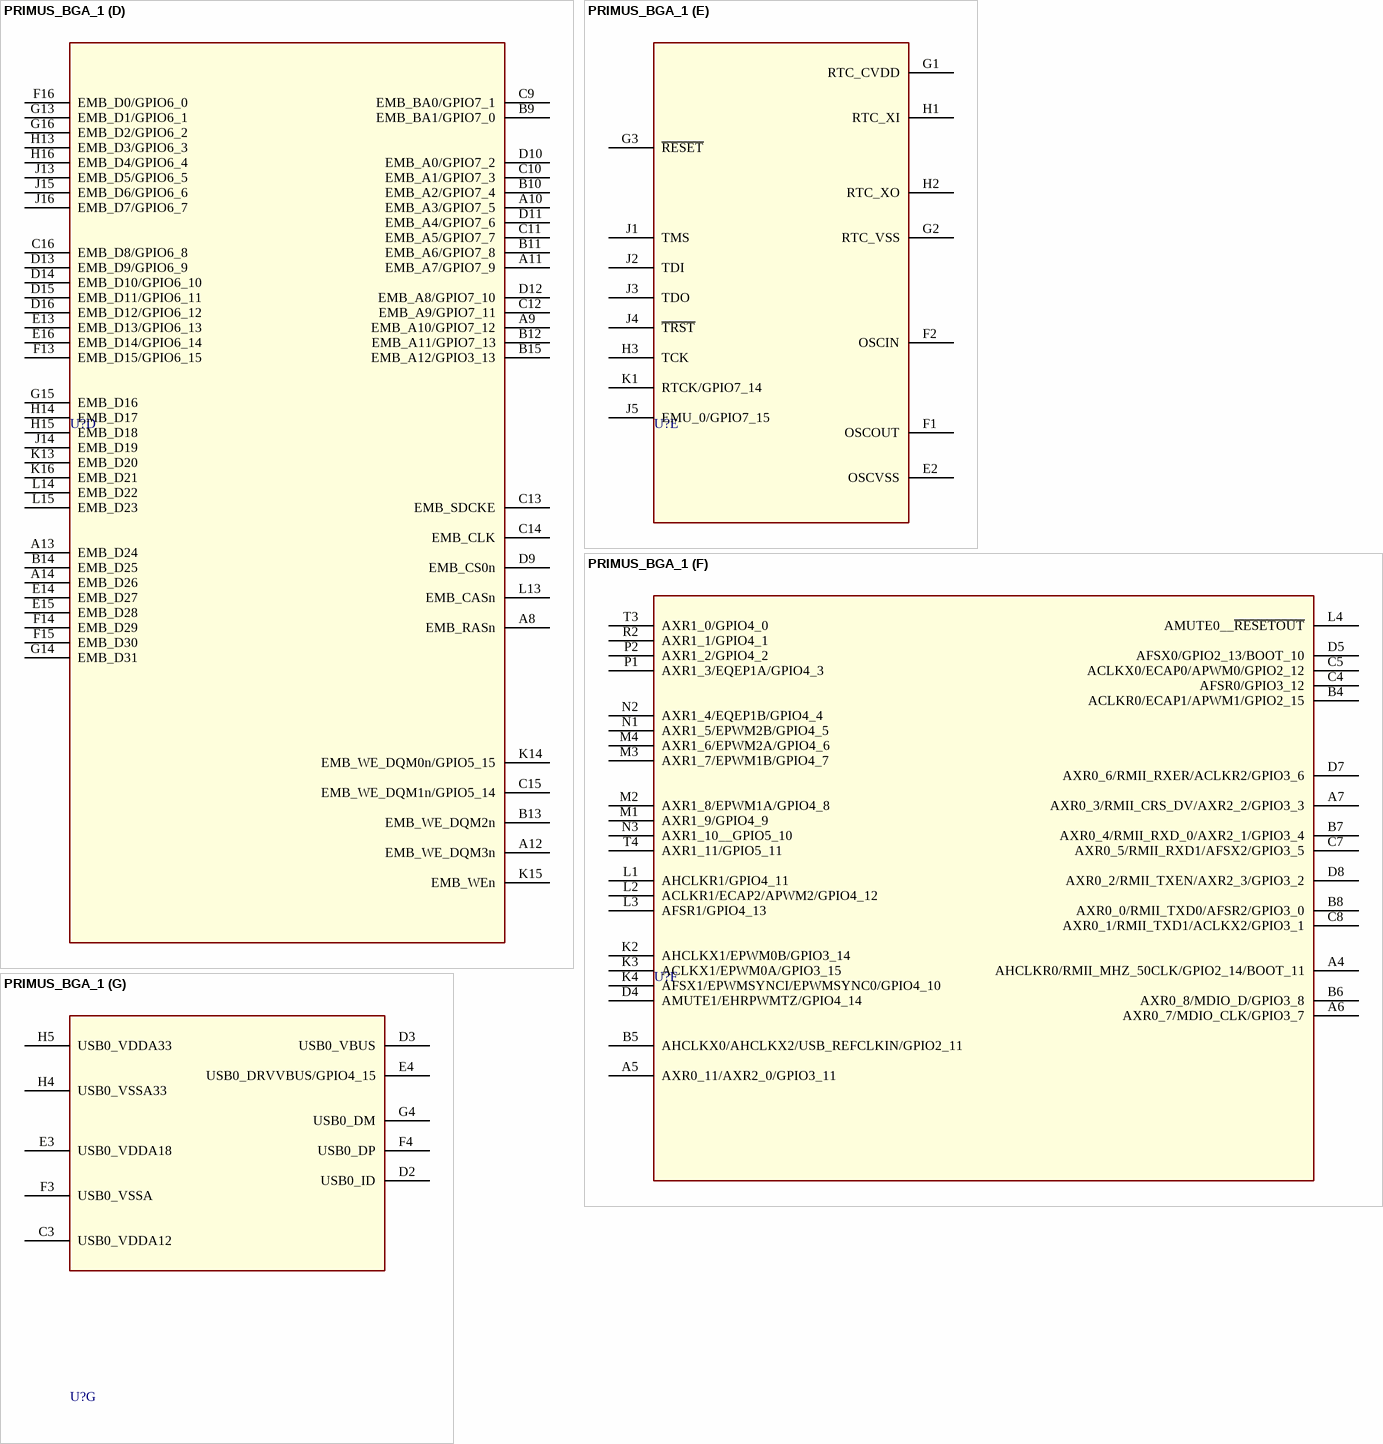
[diagram p7: symbol PRIMUS_BGA_1]

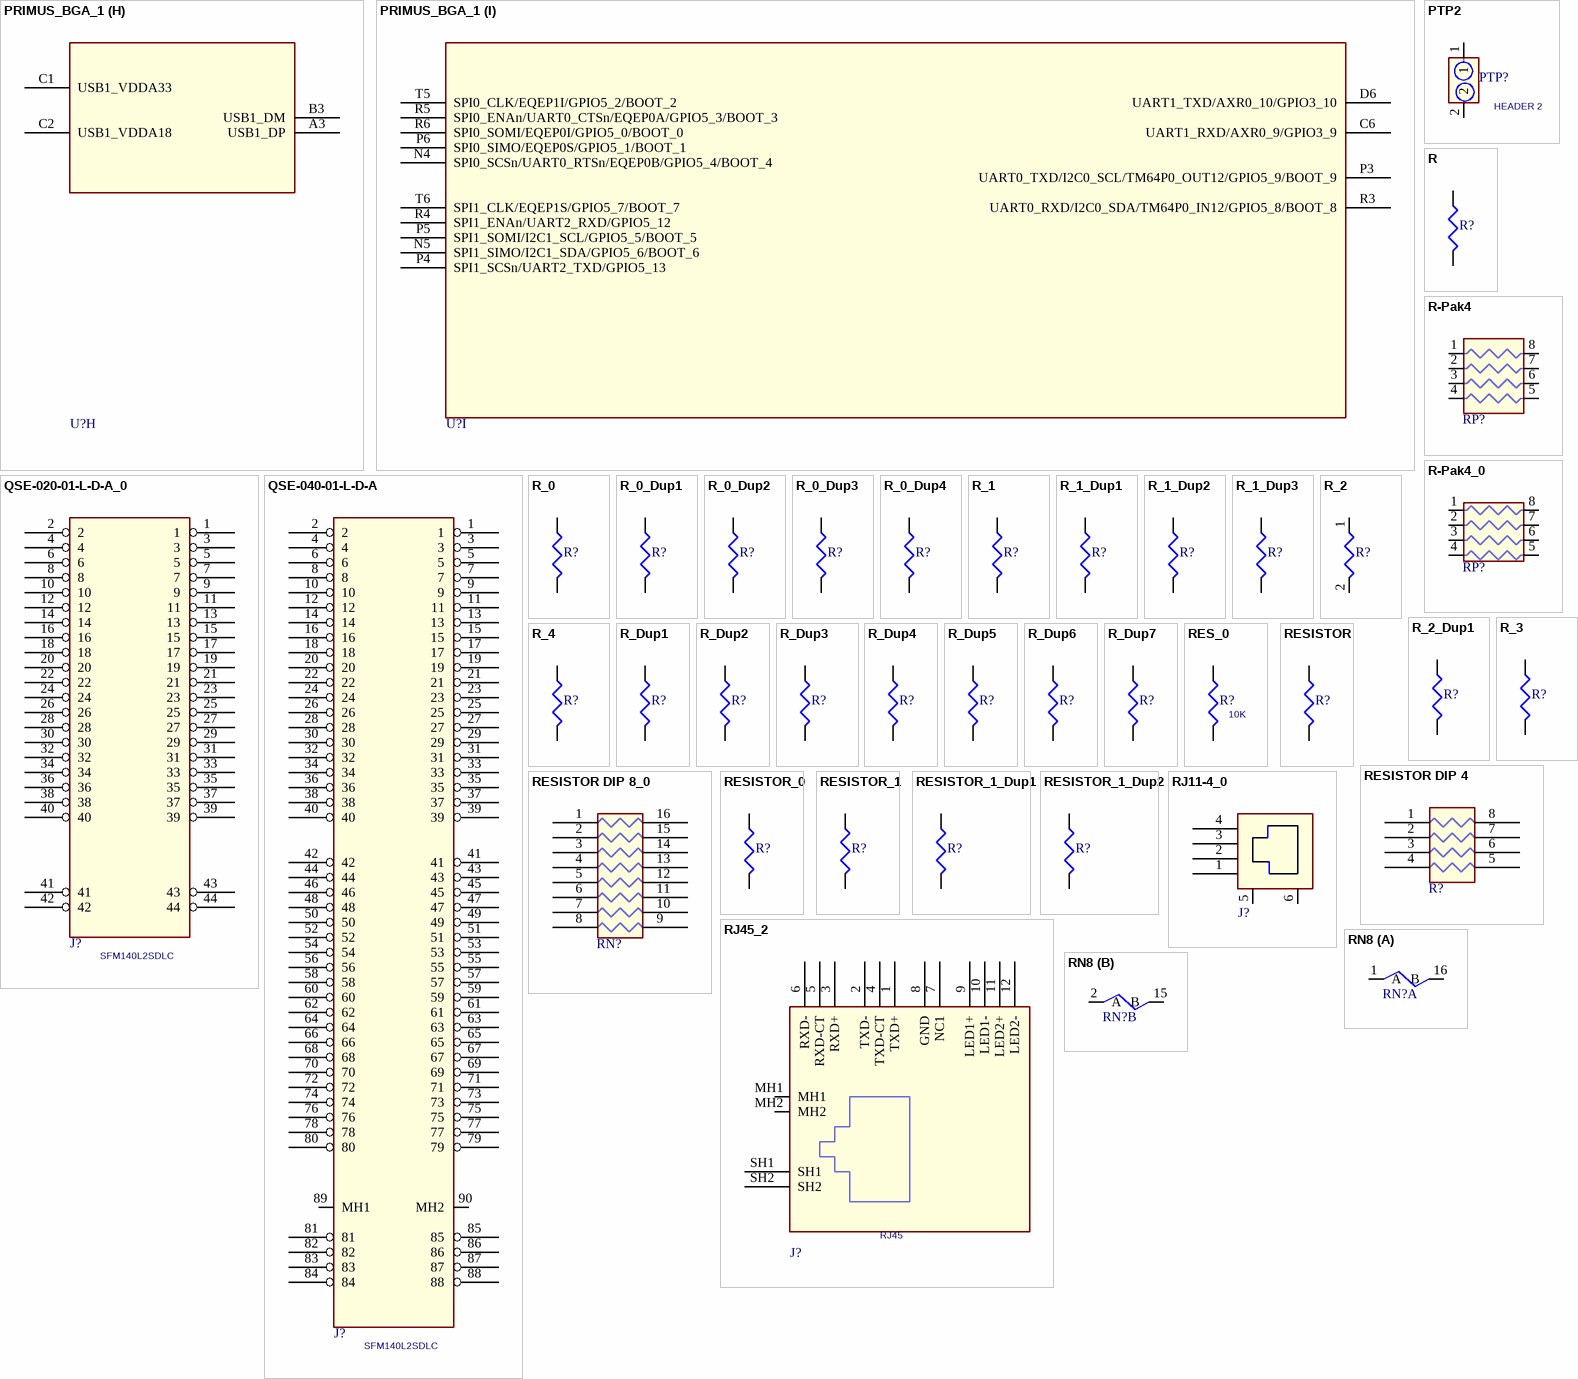
[diagram p8: symbols PRIMUS_BGA_1 to RN8]

## PRIMUS_BGA_1
designator U?
SWAP_INFO: (S1+S2+S3+S4+S5+S6+S7+S8+S9); SPLIT_INST: TRUE
footprint SKT256-6064
part A pins: A1 VSS.13 (power), A2 VSS.14 (power), A15 VSS.15 (power), A16 VSS.16 (power), B2 VSS.12 (power), E6 VSS.8 (power), E7 VSS.9 (power), E10 VSS.10 (power), E11 VSS.11 (power), F8 VSS.5 (power), F9 VSS.6 (power), F10 VSS.7 (power), G8 VSS.3 (power), G9 VSS.4 (power), H8 VSS.1 (power), H9 VSS.2 (power), J8 VSS.19 (power), J9 VSS.20 (power), K8 VSS.17 (power), K9 VSS.18 (power), L7 VSS.21 (power), L8 VSS.22 (power), L9 VSS.23 (power), L10 VSS.24 (power), M6 VSS.25 (power), M7 VSS.26 (power), M10 VSS.27 (power), M11 VSS.28 (power), T1 VSS.29 (power), T2 VSS.30 (power), T15 VSS.31 (power), T16 VSS.32 (power)
part B pins: B1 RSV2 (power), B16 DVDD.21 (power), D1 PLL0_VDDA (power), E1 PLL0_VSSA (power), E5 DVDD.17 (power), E8 DVDD.18 (power), E9 DVDD.19 (power), E12 DVDD.20 (power), F5 DVDD.14 (power), F6 CVDD.18 (power), F7 RSV1, F11 DVDD.15 (power), F12 DVDD.16 (power), G5 DVDD.12 (power), G6 CVDD.14 (power), G7 CVDD.15 (power), G10 CVDD.16 (power), G11 CVDD.17 (power), G12 DVDD.13 (power), H6 CVDD.19 (power), H7 CVDD.11 (power), H10 CVDD.12 (power), H11 CVDD.13 (power), H12 CVDD.20 (power), J6 CVDD.6 (power), J7 CVDD.7 (power), J10 CVDD.8 (power), J11 CVDD.9 (power), J12 CVDD.10 (power), K5 DVDD.10 (power), K6 CVDD.2 (power), K7 CVDD.3 (power), K10 CVDD.4 (power), K11 CVDD.5 (power), K12 DVDD.11 (power), L5 DVDD.7 (power), L6 CVDD.1 (power), L11 DVDD.8 (power), L12 DVDD.9 (power), M5 DVDD.3 (power), M8 DVDD.4 (power), M9 DVDD.5 (power), M12 DVDD.6 (power), R1 DVDD.1 (power), R16 DVDD.2 (power)
part C pins: L16 EMA_CASn/EMA_CS4n/GPIO2_1, M13 EMA_WE/UHPI_HRWn/AXR0_12/GPIO2_3/BOOT_14, M14 EMA_WE_DQM0n/UHPI_HINTn/AXR0_15/GPIO2_9, M15 EMA_D7/MMCSD_DAT7/UHPI_HD7/GPIO0_7/BOOT_13, M16 EMA_D15/UHPI_HD15/LCD_D15/GPIO0_15, N6 EMA_WAIT0/UHPIHRDYn/GPIO2_10, N7 EMA_RASn/EMA_CS5n/GPIO2_2, N8 EMA_A10/LCD_VSYNC/GPIO1_10, N9 EMA_A3/LCD_D6/GPIO1_3, N10 EMA_A7/LCD_D0/GPIO1_7, N11 EMA_A12/LCD_MCLK/GPIO1_12, N12 EMA_D8/UHPI_HD8/LCD_D8/GPIO0_8, N13 EMA_D6/MMCSD_DAT6/UHPI_HD6/GPIO0_6, N14 EMA_D14/UHPI_HD14/LCD_D14/GPIO0_14, N15 EMA_D5/MMCSD_DAT5/UHPI_HD5/GPIO0_5, N16 EMA_D13/UHPI_HD13/LCD_D13/GPIO0_13, P7 EMA_CS2n/UHPI_HCSn/GPIO2_5/BOOT_15, P8 EMA_BA1/LCD_D5/UHPI_HHWIL/GPIO1_13, P9 EMA_A2/MMCSD_CMD/UHPI_HCNTL1/GPIO1_2, P10 EMA_A6/LCD_D1/GPIO1_6, P11 EMA_A11/LCD_ACn/ENB_CSn/GPIO1_11, P12 EMA_WE_DQM1n/UHPI_HDS2n/AXR0_14/GPIO2_8, P13 EMA_D4/MMCSD_DAT4/UHPI_HD4/GPIO0_4, P14 EMA_D12/UHPI_HD12/LCD_D12/GPIO0_12, P15 EMA_D3/MMCSD_DAT3/UHPI_HD3/GPIO0_3, P16 EMA_D11/UHPI_HD11/LCD_D11/GPIO0_11, R7 EMA_OEn/UHPI_HDS1n/AXR0_13/GPIO2_7, R8 EMA_BA0/LCD_D4/GPIO1_14, R9 EMA_A1/MMCSD_CLK/UHPI_HCNTL0/GPIO1_1, R10 EMA_A5/LCD_D2/GPIO1_5, R11 EMA_A9/LCD_HSYNC/GPIO1_9, R12 EMA_CLK/OBSCLK/AHCLKR2/GPIO1_15, R13 EMA_D2/MMCSD_DAT2/UHPI_HD2/GPIO0_2, R14 EMA_D10/UHPI_HD_10/LCD_D10/GPIO0_10, R15 EMA_D1/MMCSD_DAT1/UHPI_HD1/GPIO0_1, T7 EMA_CS3n/AMUTE2/GPIO2_6, T8 EMA_CS0n/UHPIHASn/GPIO2_4, T9 EMA_A0/LCD_D7/GPIO1_0, T10 EMA_A4/LCD_D3/GPIO1_4, T11 EMA_A8/LCD_PCLK/GPIO1_8, T12 EMA_SDCKE/GPIO2_0, T13 EMA_D0/MMCSD_DAT0/UHPI_HD0/GPIO00/BOOT_12, T14 EMA_D9/UHPI_HD9/LCD_D9/GPIO0_9
part D pins: A8 EMB_RASn, A9 EMB_A10/GPIO7_12, A10 EMB_A3/GPIO7_5, A11 EMB_A7/GPIO7_9, A12 EMB_WE_DQM3n, A13 EMB_D24, A14 EMB_D26, B9 EMB_BA1/GPIO7_0, B10 EMB_A2/GPIO7_4, B11 EMB_A6/GPIO7_8, B12 EMB_A11/GPIO7_13, B13 EMB_WE_DQM2n, B14 EMB_D25, B15 EMB_A12/GPIO3_13, C9 EMB_BA0/GPIO7_1, C10 EMB_A1/GPIO7_3, C11 EMB_A5/GPIO7_7, C12 EMB_A9/GPIO7_11, C13 EMB_SDCKE, C14 EMB_CLK, C15 EMB_WE_DQM1n/GPIO5_14, C16 EMB_D8/GPIO6_8, D9 EMB_CS0n, D10 EMB_A0/GPIO7_2, D11 EMB_A4/GPIO7_6, D12 EMB_A8/GPIO7_10, D13 EMB_D9/GPIO6_9, D14 EMB_D10/GPIO6_10, D15 EMB_D11/GPIO6_11, D16 EMB_D12/GPIO6_12, E13 EMB_D13/GPIO6_13, E14 EMB_D27, E15 EMB_D28, E16 EMB_D14/GPIO6_14, F13 EMB_D15/GPIO6_15, F14 EMB_D29, F15 EMB_D30, F16 EMB_D0/GPIO6_0, G13 EMB_D1/GPIO6_1, G14 EMB_D31, G15 EMB_D16, G16 EMB_D2/GPIO6_2, H13 EMB_D3/GPIO6_3, H14 EMB_D17, H15 EMB_D18, H16 EMB_D4/GPIO6_4, J13 EMB_D5/GPIO6_5, J14 EMB_D19, J15 EMB_D6/GPIO6_6, J16 EMB_D7/GPIO6_7, K13 EMB_D20, K14 EMB_WE_DQM0n/GPIO5_15, K15 EMB_WEn, K16 EMB_D21, L13 EMB_CASn, L14 EMB_D22, L15 EMB_D23
part E pins: E2 OSCVSS (power), F1 OSCOUT, F2 OSCIN, G1 RTC_CVDD (power), G2 RTC_VSS (power), G3 ~{RESET}, H1 RTC_XI, H2 RTC_XO, H3 TCK, J1 TMS, J2 TDI, J3 TDO, J4 ~{TRST}, J5 EMU_0/GPIO7_15, K1 RTCK/GPIO7_14
part F pins: A4 AHCLKR0/RMII_MHZ_50CLK/GPIO2_14/BOOT_11, A5 AXR0_11/AXR2_0/GPIO3_11, A6 AXR0_7/MDIO_CLK/GPIO3_7, A7 AXR0_3/RMII_CRS_DV/AXR2_2/GPIO3_3, B4 ACLKR0/ECAP1/APWM1/GPIO2_15, B5 AHCLKX0/AHCLKX2/USB_REFCLKIN/GPIO2_11, B6 AXR0_8/MDIO_D/GPIO3_8, B7 AXR0_4/RMII_RXD_0/AXR2_1/GPIO3_4, B8 AXR0_0/RMII_TXD0/AFSR2/GPIO3_0, C4 AFSR0/GPIO3_12, C5 ACLKX0/ECAP0/APWM0/GPIO2_12, C7 AXR0_5/RMII_RXD1/AFSX2/GPIO3_5, C8 AXR0_1/RMII_TXD1/ACLKX2/GPIO3_1, D4 AMUTE1/EHRPWMTZ/GPIO4_14, D5 AFSX0/GPIO2_13/BOOT_10, D7 AXR0_6/RMII_RXER/ACLKR2/GPIO3_6, D8 AXR0_2/RMII_TXEN/AXR2_3/GPIO3_2, K2 AHCLKX1/EPWM0B/GPIO3_14, K3 ACLKX1/EPWM0A/GPIO3_15, K4 AFSX1/EPWMSYNCI/EPWMSYNC0/GPIO4_10, L1 AHCLKR1/GPIO4_11, L2 ACLKR1/ECAP2/APWM2/GPIO4_12, L3 AFSR1/GPIO4_13, L4 AMUTE0__~{RESETOUT}, M1 AXR1_9/GPIO4_9, M2 AXR1_8/EPWM1A/GPIO4_8, M3 AXR1_7/EPWM1B/GPIO4_7, M4 AXR1_6/EPWM2A/GPIO4_6, N1 AXR1_5/EPWM2B/GPIO4_5, N2 AXR1_4/EQEP1B/GPIO4_4, N3 AXR1_10__GPIO5_10, P1 AXR1_3/EQEP1A/GPIO4_3, P2 AXR1_2/GPIO4_2, R2 AXR1_1/GPIO4_1, T3 AXR1_0/GPIO4_0, T4 AXR1_11/GPIO5_11
part G pins: C3 USB0_VDDA12, D2 USB0_ID, D3 USB0_VBUS, E3 USB0_VDDA18, E4 USB0_DRVVBUS/GPIO4_15, F3 USB0_VSSA, F4 USB0_DP, G4 USB0_DM, H4 USB0_VSSA33, H5 USB0_VDDA33
part H pins: A3 USB1_DP, B3 USB1_DM, C1 USB1_VDDA33, C2 USB1_VDDA18
part I pins: C6 UART1_RXD/AXR0_9/GPIO3_9, D6 UART1_TXD/AXR0_10/GPIO3_10, N4 SPI0_SCSn/UART0_RTSn/EQEP0B/GPIO5_4/BOOT_4, N5 SPI1_SIMO/I2C1_SDA/GPIO5_6/BOOT_6, P3 UART0_TXD/I2C0_SCL/TM64P0_OUT12/GPIO5_9/BOOT_9, P4 SPI1_SCSn/UART2_TXD/GPIO5_13, P5 SPI1_SOMI/I2C1_SCL/GPIO5_5/BOOT_5, P6 SPI0_SIMO/EQEP0S/GPIO5_1/BOOT_1, R3 UART0_RXD/I2C0_SDA/TM64P0_IN12/GPIO5_8/BOOT_8, R4 SPI1_ENAn/UART2_RXD/GPIO5_12, R5 SPI0_ENAn/UART0_CTSn/EQEP0A/GPIO5_3/BOOT_3, R6 SPI0_SOMI/EQEP0I/GPIO5_0/BOOT_0, T5 SPI0_CLK/EQEP1I/GPIO5_2/BOOT_2, T6 SPI1_CLK/EQEP1S/GPIO5_7/BOOT_7

## PTP2
designator PTP?, comment HEADER 2
Single Line Header 2pin Tin; NCPartnumber: 2H0000; MfrNum: PTC02SAAN; Mfr: Sullins; Cost10K: 0.252; Vendor: Digikey; Cost100: 0.252; PartName: HEADER2Pin
footprint JUMP1X2-6040
pins: 1, 2

## QSE-020-01-L-D-A_0
designator J?, comment SFM140L2SDLC
pins: 1, 2, 3, 4, 5, 6, 7, 8, 9, 10, 11, 12, 13, 14, 15, 16, 17, 18, 19, 20, 21, 22, 23, 24, 25, 26, 27, 28, 29, 30, 31, 32, 33, 34, 35, 36, 37, 38, 39, 40, 41, 42, 43, 44

## QSE-040-01-L-D-A
designator J?, comment SFM140L2SDLC
pins: 1, 2, 3, 4, 5, 6, 7, 8, 9, 10, 11, 12, 13, 14, 15, 16, 17, 18, 19, 20, 21, 22, 23, 24, 25, 26, 27, 28, 29, 30, 31, 32, 33, 34, 35, 36, 37, 38, 39, 40, 41, 42, 43, 44, 45, 46, 47, 48, 49, 50, 51, 52, 53, 54, 55, 56, 57, 58, 59, 60, 61, 62, 63, 64, 65, 66, 67, 68, 69, 70, 71, 72, 73, 74, 75, 76, 77, 78, 79, 80, 81, 82, 83, 84, 85, 86, 87, 88, 89 MH1, 90 MH2

## R
designator R?
pins: 1, 2

## R-Pak4
designator RP?
pins: 1 R1A, 2 R2A, 3 R3A, 4 R4A, 5 R4B, 6 R3B, 7 R2B, 8 R1B

## R-Pak4_0
designator RP?
pins: 1 R1A, 2 R2A, 3 R3A, 4 R4A, 5 R4B, 6 R3B, 7 R2B, 8 R1B

## R_0
designator R?
pins: 1, 2

## R_0_Dup1
designator R?
pins: 1, 2

## R_0_Dup2
designator R?
pins: 1, 2

## R_0_Dup3
designator R?
pins: 1, 2

## R_0_Dup4
designator R?
pins: 1, 2

## R_1
designator R?
pins: 1, 2

## R_1_Dup1
designator R?
pins: 1, 2

## R_1_Dup2
designator R?
pins: 1, 2

## R_1_Dup3
designator R?
pins: 1, 2

## R_2
designator R?
pins: 1, 2

## R_2_Dup1
designator R?
pins: 1, 2

## R_3
designator R?
pins: 1, 2

## R_4
designator R?
pins: 1, 2

## R_Dup1
designator R?
pins: 1, 2

## R_Dup2
designator R?
pins: 1, 2

## R_Dup3
designator R?
pins: 1, 2

## R_Dup4
designator R?
pins: 1, 2

## R_Dup5
designator R?
pins: 1, 2

## R_Dup6
designator R?
pins: 1, 2

## R_Dup7
designator R?
pins: 1, 2

## RES_0
designator R?, comment 10K
CLASS: DISCRETE; TN: 272-0029-000; TOL: 1%; RATING: 0.063W
footprint SM-RES-0402
pins: 1 P1, 2 P2

## RESISTOR
designator R?
pins: 1, 2

## RESISTOR DIP 4
designator R?
pins: 1, 2, 3, 4, 5, 6, 7, 8

## RESISTOR DIP 8_0
designator RN?
pins: 1, 2, 3, 4, 5, 6, 7, 8, 9, 10, 11, 12, 13, 14, 15, 16

## RESISTOR_0
designator R?
pins: 1, 2

## RESISTOR_1
designator R?
pins: 1, 2

## RESISTOR_1_Dup1
designator R?
pins: 1, 2

## RESISTOR_1_Dup2
designator R?
pins: 1, 2

## RJ11-4_0
designator J?
pins: 1, 2, 3, 4, 5, 6

## RJ45_2
designator J?, comment RJ45
RJ45 Jack with 2 LEDs shielded; NCPartnumber: 2J0005; Mfr: Amphenol; PartName: RJ45w2LEDs; Cost100: 2.31; Vendor: Newark; Cost10K: 1.87; MfrNum: RJHS-5385
footprint RJ45AMP556591-1
pins: 1 TXD+, 2 TXD-, 3 RXD+, 4 TXD-CT, 5 RXD-CT, 6 RXD-, 7 NC1, 8 GND, 9 LED1+, 10 LED1-, 11 LED2+, 12 LED2-, MH1, MH2, SH1, SH2

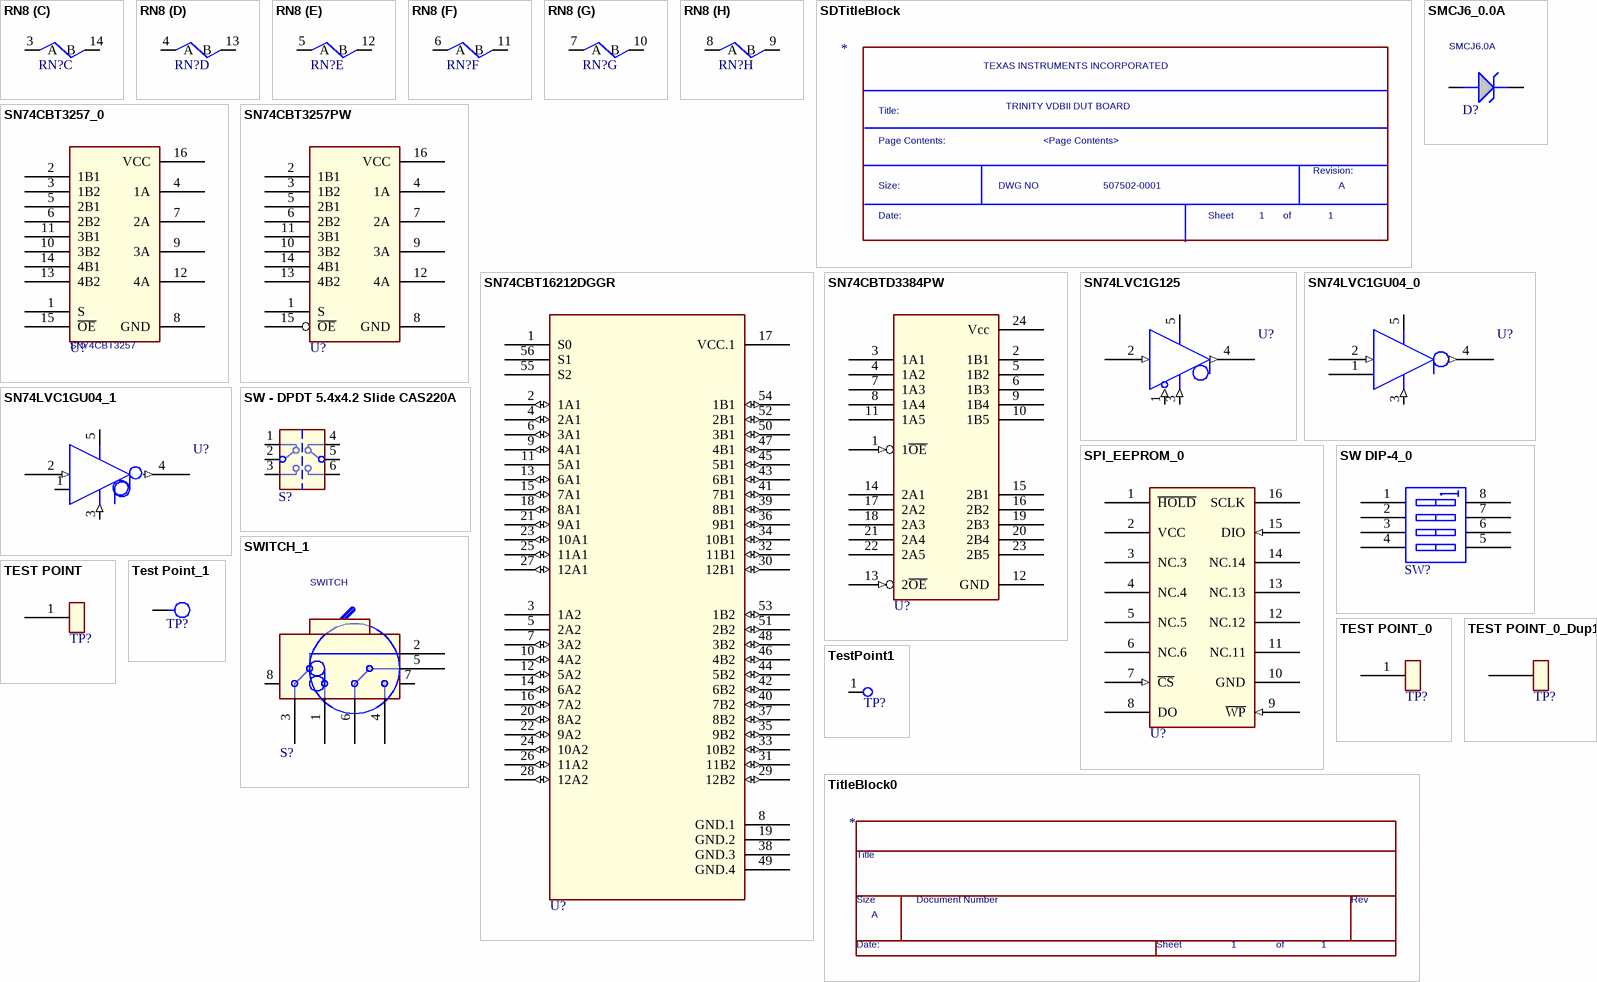
[diagram p9: symbols RN8 to TitleBlock0]

## RN8
designator RN?
footprint RPACK16
part A pins: 1 A, 16 B
part B pins: 2 A, 15 B
part C pins: 3 A, 14 B
part D pins: 4 A, 13 B
part E pins: 5 A, 12 B
part F pins: 6 A, 11 B
part G pins: 7 A, 10 B
part H pins: 8 A, 9 B

## SDTitleBlock
designator *  Page Contents:: <Page Contents>  RevCode: A  Title: TRINITY VDBII DUT BOARD  OrgName: TEXAS INSTRUMENTS INCORPORATED  Doc: 507502-0001  Page Number: 1  (graphical)
Page Count: 1
text: Title:; Page Contents:; Revision:; Size:; DWG NO; Date:; Sheet; of

## SMCJ6_0.0A
designator D?, comment SMCJ6.0A
footprint SMC-DO-214AB
pins: 1 Cathode, 2 Anode

## SN74CBT3257_0
designator U?, comment SN74CBT3257
IC, Quad 2-1 Multiplexer; Part #: SN74CBT3257PW
footprint TSSOP 16
pins: 1 S, 2 1B1, 3 1B2, 4 1A, 5 2B1, 6 2B2, 7 2A, 8 GND, 9 3A, 10 3B2, 11 3B1, 12 4A, 13 4B2, 14 4B1, 15 ~{OE}, 16 VCC

## SN74CBT3257PW
designator U?
IC, Quad 2-1 Multiplexer; Part #: SN74CBT3257PW; Mfg: TI
footprint TSSOP-16
pins: 1 S, 2 1B1, 3 1B2, 4 1A, 5 2B1, 6 2B2, 7 2A, 8 GND, 9 3A, 10 3B2, 11 3B1, 12 4A, 13 4B2, 14 4B1, 15 ~{OE}, 16 VCC

## SN74CBT16212DGGR
designator U?
footprint 56 pin TSSOP
pins: 1 S0, 2 1A1 (io), 3 1A2, 4 2A1 (io), 5 2A2, 6 3A1 (io), 7 3A2 (io), 8 GND.1, 9 4A1 (io), 10 4A2 (io), 11 5A1, 12 5A2 (io), 13 6A1 (io), 14 6A2 (io), 15 7A1 (io), 16 7A2 (io), 17 VCC.1 (power), 18 8A1 (io), 19 GND.2, 20 8A2 (io), 21 9A1 (io), 22 9A2 (io), 23 10A1 (io), 24 10A2 (io), 25 11A1 (io), 26 11A2 (io), 27 12A1 (io), 28 12A2 (io), 29 12B2 (io), 30 12B1 (io), 31 11B2 (io), 32 11B1 (io), 33 10B2 (io), 34 10B1 (io), 35 9B2 (io), 36 9B1 (io), 37 8B2 (io), 38 GND.3, 39 8B1 (io), 40 7B2 (io), 41 7B1 (io), 42 6B2 (io), 43 6B1 (io), 44 5B2 (io), 45 5B1 (io), 46 4B2 (io), 47 4B1 (io), 48 3B2 (io), 49 GND.4, 50 3B1 (io), 51 2B2 (io), 52 2B1 (io), 53 1B2 (io), 54 1B1 (io), 55 S2, 56 S1

## SN74CBTD3384PW
designator U?
Part #: SN74CBTD3384DBQ; Mfg: TI
footprint TSSOP-24
pins: 1 1~{OE} (in), 2 1B1, 3 1A1, 4 1A2, 5 1B2, 6 1B3, 7 1A3, 8 1A4, 9 1B4, 10 1B5, 11 1A5, 12 GND (power), 13 2~{OE} (in), 14 2A1, 15 2B1, 16 2B2, 17 2A2, 18 2A3, 19 2B3, 20 2B4, 21 2A4, 22 2A5, 23 2B5, 24 Vcc (power)

## SN74LVC1G125
designator U?
footprint DCK
pins: 1 OE (in), 2 I (in), 3 GND (in), 4 O (out), 5 VCC

## SN74LVC1GU04_0
designator U?
footprint DCK
pins: 1, 2 I (in), 3 GND (in), 4 O (out), 5 VCC

## SN74LVC1GU04_1
designator U?
footprint DCK
pins: 1 NC1, 2 I (in), 3 GND (in), 4 O (out), 5 VCC

## SPI_EEPROM_0
designator U?
pins: 1 ~{HOLD}, 2 VCC (power), 3 NC.3, 4 NC.4, 5 NC.5, 6 NC.6, 7 ~{CS} (in), 8 DO, 9 ~{WP} (in), 10 GND (power), 11 NC.11, 12 NC.12, 13 NC.13, 14 NC.14, 15 DIO (in), 16 SCLK

## SW - DPDT 5.4x4.2 Slide CAS220A
designator S?
SLIDE Switch, DPDT,  100mA, J HOOK; MfrNum: CAS-220A; Mfr: BC Components; Vendor: Digi_Key; VendorNum: CAS220JCT-ND
pins: 1, 2, 3, 4, 5, 6

## SW DIP-4_0
designator SW?
pins: 1 A1, 2 A2, 3 A3, 4 A4, 5 B4, 6 B3, 7 B2, 8 B1

## SWITCH_1
designator S?, comment SWITCH
footprint TGL_2X3
pins: 1 NO1, 2 COMMON1, 3 NC1, 4 NO2, 5 COMMON2, 6 NC2, 7 MOUNT, 8 MOUNT2

## TEST POINT
designator TP?
pins: 1

## TEST POINT_0
designator TP?
footprint CON1
pins: 1

## TEST POINT_0_Dup1
designator TP?
pins: 1

## Test Point_1
designator TP?
Test Point; PartName: HEADER 1; Vendor: Digi-Key; Vendor Nbr: S2111-36-ND
footprint tp1-6040
pins: 1 PIN

## TestPoint1
designator TP?
ATLStockNo1: none
footprint TP1_0-2_0
pins: 1

## TitleBlock0
designator *  Page Count: 1  Page Size: A  (graphical)
Page Number: 1; Page Create Date: March  8, 1995
text: Title; Size; Document Number; Rev; Date:; Sheet; of

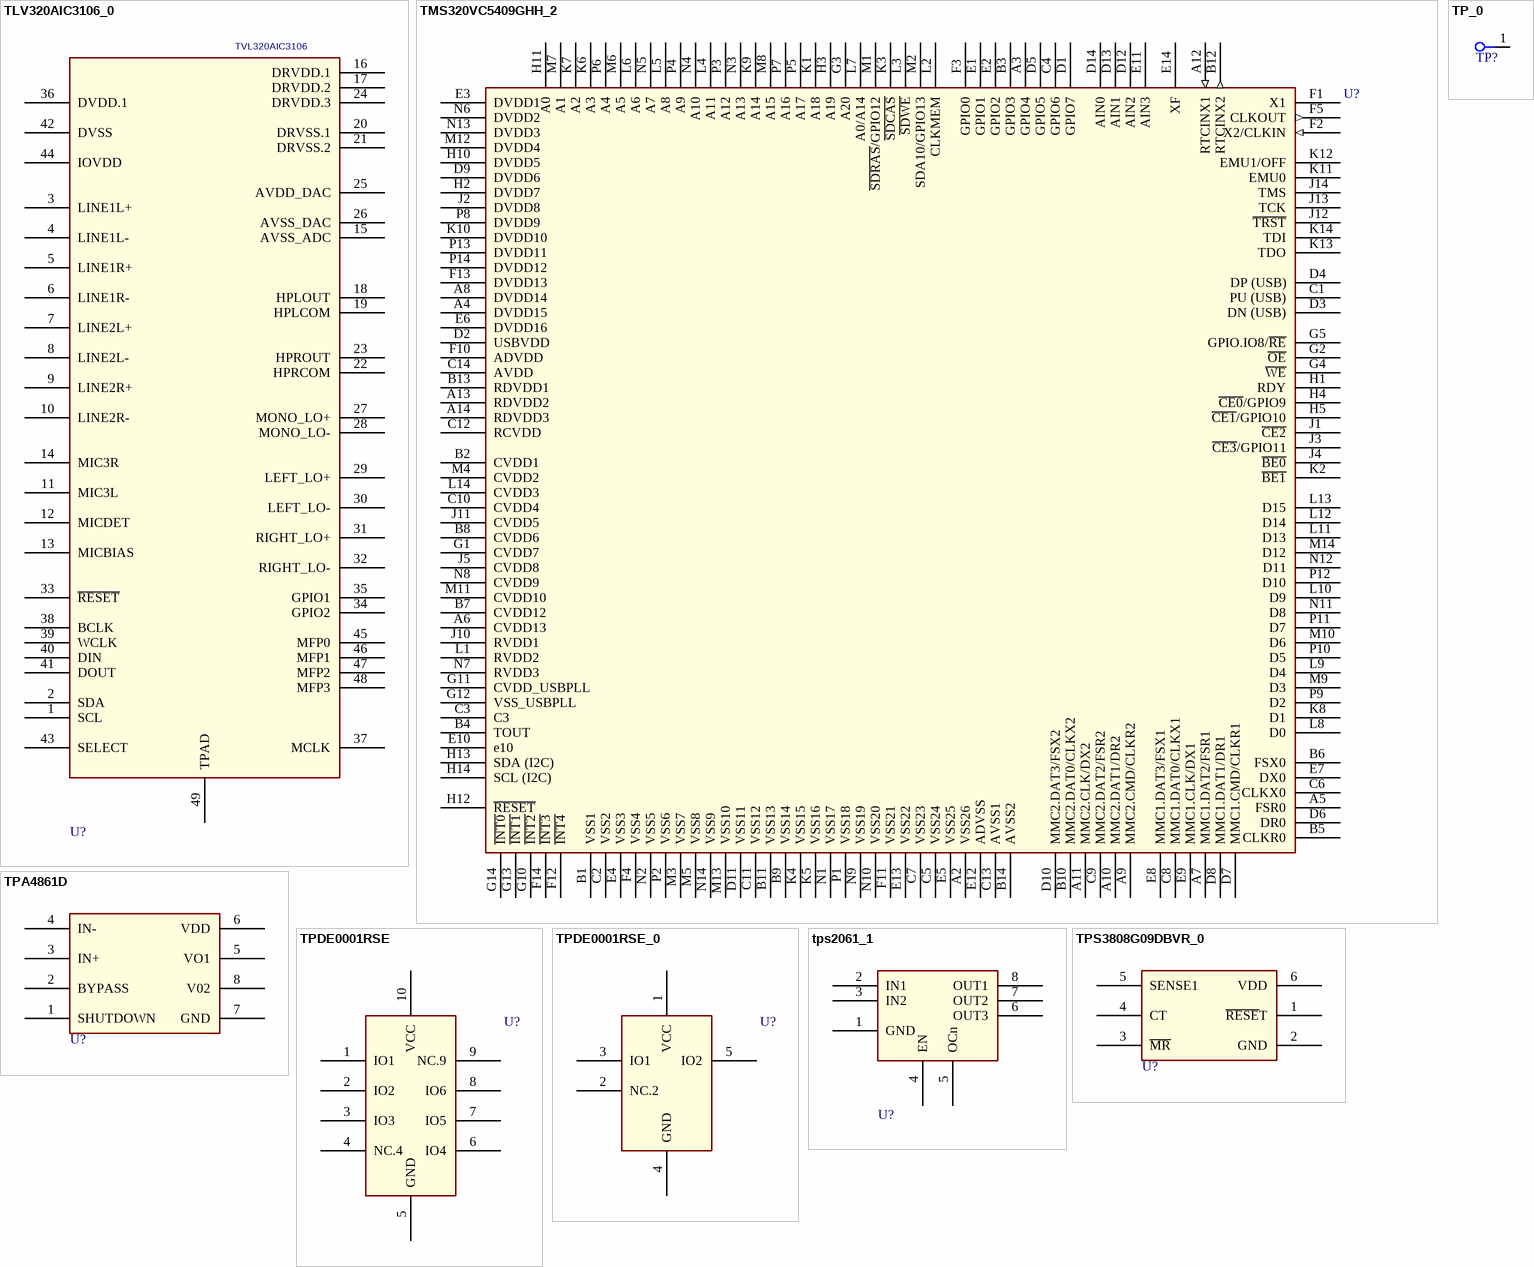
[diagram p10: symbols TLV320AIC3106_0 to TPS3808G09DBVR_0]

## TLV320AIC3106_0
designator U?, comment TVL320AIC3106
pins: 1 SCL, 2 SDA, 3 LINE1L+, 4 LINE1L-, 5 LINE1R+, 6 LINE1R-, 7 LINE2L+, 8 LINE2L-, 9 LINE2R+, 10 LINE2R-, 11 MIC3L, 12 MICDET, 13 MICBIAS, 14 MIC3R, 15 AVSS_ADC, 16 DRVDD.1, 17 DRVDD.2, 18 HPLOUT, 19 HPLCOM, 20 DRVSS.1, 21 DRVSS.2, 22 HPRCOM, 23 HPROUT, 24 DRVDD.3, 25 AVDD_DAC, 26 AVSS_DAC, 27 MONO_LO+, 28 MONO_LO-, 29 LEFT_LO+, 30 LEFT_LO-, 31 RIGHT_LO+, 32 RIGHT_LO-, 33 ~{RESET}, 34 GPIO2, 35 GPIO1, 36 DVDD.1, 37 MCLK, 38 BCLK, 39 WCLK, 40 DIN, 41 DOUT, 42 DVSS, 43 SELECT, 44 IOVDD, 45 MFP0, 46 MFP1, 47 MFP2, 48 MFP3, 49 TPAD

## TMS320VC5409GHH_2
designator U?
footprint 179 Pin BGA
pins: A2 VSS26, A3 GPIO4, A4 DVDD15, A5 FSR0, A6 CVDD13, A7 MMC1.DAT2/FSR1, A8 DVDD14, A9 MMC2.CMD/CLKR2, A10 MMC2.DAT1/DR2, A11 MMC2.CLK/DX2, A12 RTCINX1 (in), A13 RDVDD2, A14 RDVDD3, B1 VSS1, B2 CVDD1, B3 GPIO3, B4 TOUT, B5 CLKR0, B6 FSX0, B7 CVDD12, B8 CVDD6, B9 VSS14, B10 MMC2.DAT0/CLKX2, B11 VSS13, B12 RTCINX2 (out), B13 RDVDD1, B14 AVSS2, C1 PU (USB), C2 VSS2, C3, C4 GPIO6, C5 VSS24, C6 CLKX0, C7 VSS23, C8 MMC1.DAT0/CLKX1, C9 MMC2.DAT2/FSR2, C10 CVDD4, C11 VSS12, C12 RCVDD, C13 AVSS1, C14 AVDD, D1 GPIO7, D2 USBVDD, D3 DN (USB), D4 DP (USB), D5 GPIO5, D6 DR0, D7 MMC1.CMD/CLKR1, D8 MMC1.DAT1/DR1, D9 DVDD6, D10 MMC2.DAT3/FSX2, D11 VSS11, D12 AIN2, D13 AIN1, D14 AIN0, E1 GPIO1, E2 GPIO2, E3 DVDD1, E4 VSS3, E5 VSS25, E6 DVDD16, E7 DX0, E8 MMC1.DAT3/FSX1, E9 MMC1.CLK/DX1, E10 e10, E11 AIN3, E12 ADVSS, E13 VSS22, E14 XF, F1 X1, F2 X2/CLKIN (in), F3 GPIO0, F4 VSS4, F5 CLKOUT (out), F10 ADVDD, F11 VSS21, F12 ~{INT4}, F13 DVDD13, F14 ~{INT3}, G1 CVDD7, G2 ~{OE}, G3 A20, G4 ~{WE}, G5 GPIO.IO8/~{RE}, G10 ~{INT2}, G11 CVDD_USBPLL, G12 VSS_USBPLL, G13 ~{INT1}, G14 ~{INT0}, H1 RDY, H2 DVDD7, H3 A19, H4 ~{CE0}/GPIO9, H5 ~{CE1}/GPIO10, H10 DVDD5, H11 A0, H12 ~{RESET}, H13 SDA (I2C), H14 SCL (I2C), J1 ~{CE2}, J2 DVDD8, J3 ~{CE3}/GPIO11, J4 ~{BE0}, J5 CVDD8, J10 RVDD1, J11 CVDD5, J12 ~{TRST}, J13 TCK, J14 TMS, K1 A18, K2 ~{BE1}, K3 ~{SDCAS}, K4 VSS15, K5 VSS16, K6 A3, K7 A2, K8 D1, K9 A14, K10 DVDD10, K11 EMU0, K12 EMU1/OFF, K13 TDO, K14 TDI, L1 RVDD2, L2 CLKMEM, L3 ~{SDWE}, L4 A11, L5 A8, L6 A6, L7 A0/A14, L8 D0, L9 D4, L10 D9, L11 D13, L12 D14, L13 D15, L14 CVDD3, M1 ~{SDRAS}/GPIO12, M2 SDA10/GPIO13, M3 VSS7, M4 CVDD2, M5 VSS8, M6 A5, M7 A1, M8 A15, M9 D3, M10 D6, M11 CVDD10, M12 DVDD4, M13 VSS10, M14 D12, N1 VSS17, N2 VSS5, N3 A13, N4 A10, N5 A7, N6 DVDD2, N7 RVDD3, N8 CVDD9, N9 VSS19, N10 VSS20, N11 D8, N12 D11, N13 DVDD3, N14 VSS9, P1 VSS18, P2 VSS6, P3 A12, P4 A9, P5 A17, P6 A4, P7 A16, P8 DVDD9, P9 D2, P10 D5, P11 D7, P12 D10, P13 DVDD11, P14 DVDD12

## TP_0
designator TP?
pins: 1

## TPA4861D
designator U?
pins: 1 SHUTDOWN, 2 BYPASS, 3 IN+, 4 IN-, 5 VO1, 6 VDD, 7 GND, 8 V02

## TPDE0001RSE
designator U?
pins: 1 IO1, 2 IO2, 3 IO3, 4 NC.4, 5 GND, 6 IO4, 7 IO5, 8 IO6, 9 NC.9, 10 VCC

## TPDE0001RSE_0
designator U?
pins: 1 VCC, 2 NC.2, 3 IO1, 4 GND, 5 IO2

## tps2061_1
designator U?
pins: 1 GND, 2 IN1, 3 IN2, 4 EN, 5 OCn, 6 OUT3, 7 OUT2, 8 OUT1

## TPS3808G09DBVR_0
designator U?
pins: 1 ~{RESE}T, 2 GND (power), 3 ~{MR}, 4 CT, 5 SENSE1, 6 VDD (power)

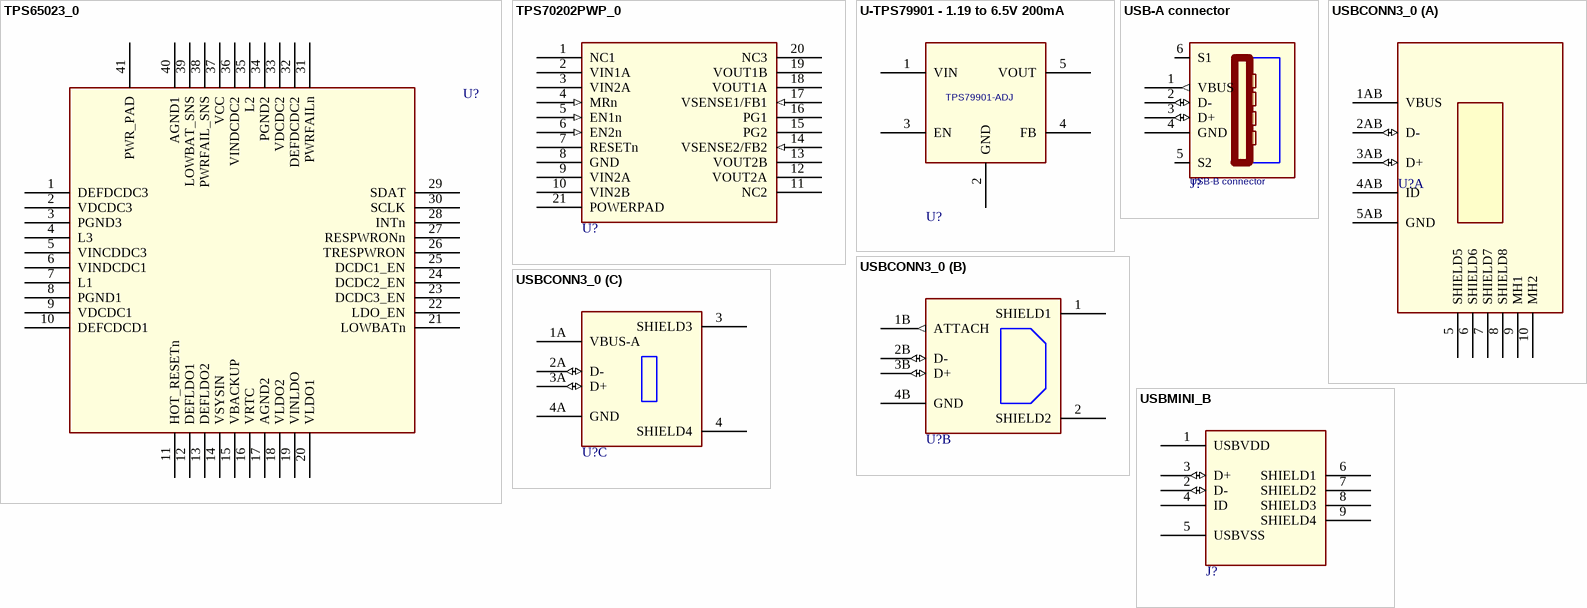
[diagram p11: symbols TPS65023_0 to USBMINI_B]

## TPS65023_0
designator U?
pins: 1 DEFDCDC3, 2 VDCDC3, 3 PGND3, 4 L3, 5 VINCDDC3, 6 VINDCDC1, 7 L1, 8 PGND1, 9 VDCDC1, 10 DEFCDCD1, 11 HOT_RESETn, 12 DEFLDO1, 13 DEFLDO2, 14 VSYSIN, 15 VBACKUP, 16 VRTC, 17 AGND2, 18 VLDO2, 19 VINLDO, 20 VLDO1, 21 LOWBATn, 22 LDO_EN, 23 DCDC3_EN, 24 DCDC2_EN, 25 DCDC1_EN, 26 TRESPWRON, 27 RESPWRONn, 28 INTn, 29 SDAT, 30 SCLK, 31 PWRFAILn, 32 DEFDCDC2, 33 VDCDC2, 34 PGND2, 35 L2, 36 VINDCDC2, 37 VCC, 38 PWRFAIL_SNS, 39 LOWBAT_SNS, 40 AGND1, 41 PWR_PAD

## TPS70202PWP_0
designator U?
footprint TSSOP20
pins: 1 NC1, 2 VIN1A (power), 3 VIN2A (power), 4 MRn (in), 5 EN1n (in), 6 EN2n (in), 7 RESETn (oc), 8 GND (power), 9 VIN2A (power), 10 VIN2B (power), 11 NC2, 12 VOUT2A (power), 13 VOUT2B (power), 14 VSENSE2/FB2 (in), 15 PG2 (oc), 16 PG1 (oc), 17 VSENSE1/FB1 (in), 18 VOUT1A (power), 19 VOUT1B (power), 20 NC3, 21 POWERPAD (power)

## U-TPS79901 - 1.19 to 6.5V 200mA
designator U?, comment TPS79901-ADJ
Single Output LDO, 200mA, Adj. 1.193 to 6.5V; PartName: U - TPS79901-ADJ LDO; Mfr: TI; MfrNum: TPS79901DDC; TI Footprint: SOT-DDC; Cost10K: 0.30; Cost100: 0.58; VendorNum: 296-17776-1-ND; Vendor: Digikey
footprint SMT-DCQ
pins: 1 VIN, 2 GND, 3 EN, 4 FB, 5 VOUT (power)

## USB-A connector
designator J?, comment USB-B connector
USB Device Connector Right Angle PCB Mount; PartName: USB  Connector; Mfr: AMP; MfrNum: 787780-1; Vendor: Digikey; VendorNum: 787780-1-ND
footprint USB-B
pins: 1 VBUS (out), 2 D- (io), 3 D+ (io), 4 GND (power), 5 S2 (power), 6 S1 (power)

## USBCONN3_0
designator U?
part A pins: 1AB VBUS, 2AB D- (io), 3AB D+ (io), 4AB ID, 5 SHIELD5, 5AB GND (power), 6 SHIELD6, 7 SHIELD7, 8 SHIELD8, 9 MH1, 10 MH2
part B pins: 1 SHIELD1, 1B ATTACH (out), 2 SHIELD2, 2B D- (io), 3B D+ (io), 4B GND (power)
part C pins: 1A VBUS-A, 2A D- (io), 3 SHIELD3, 3A D+ (io), 4 SHIELD4, 4A GND (power)

## USBMINI_B
designator J?
footprint SMT
pins: 1 USBVDD (power), 2 D- (io), 3 D+ (io), 4 ID, 5 USBVSS (power), 6 SHIELD1, 7 SHIELD2, 8 SHIELD3, 9 SHIELD4